# Altium integrated library Altera MAX 3000A.IntLib: 136 symbols (part 7 of 9)
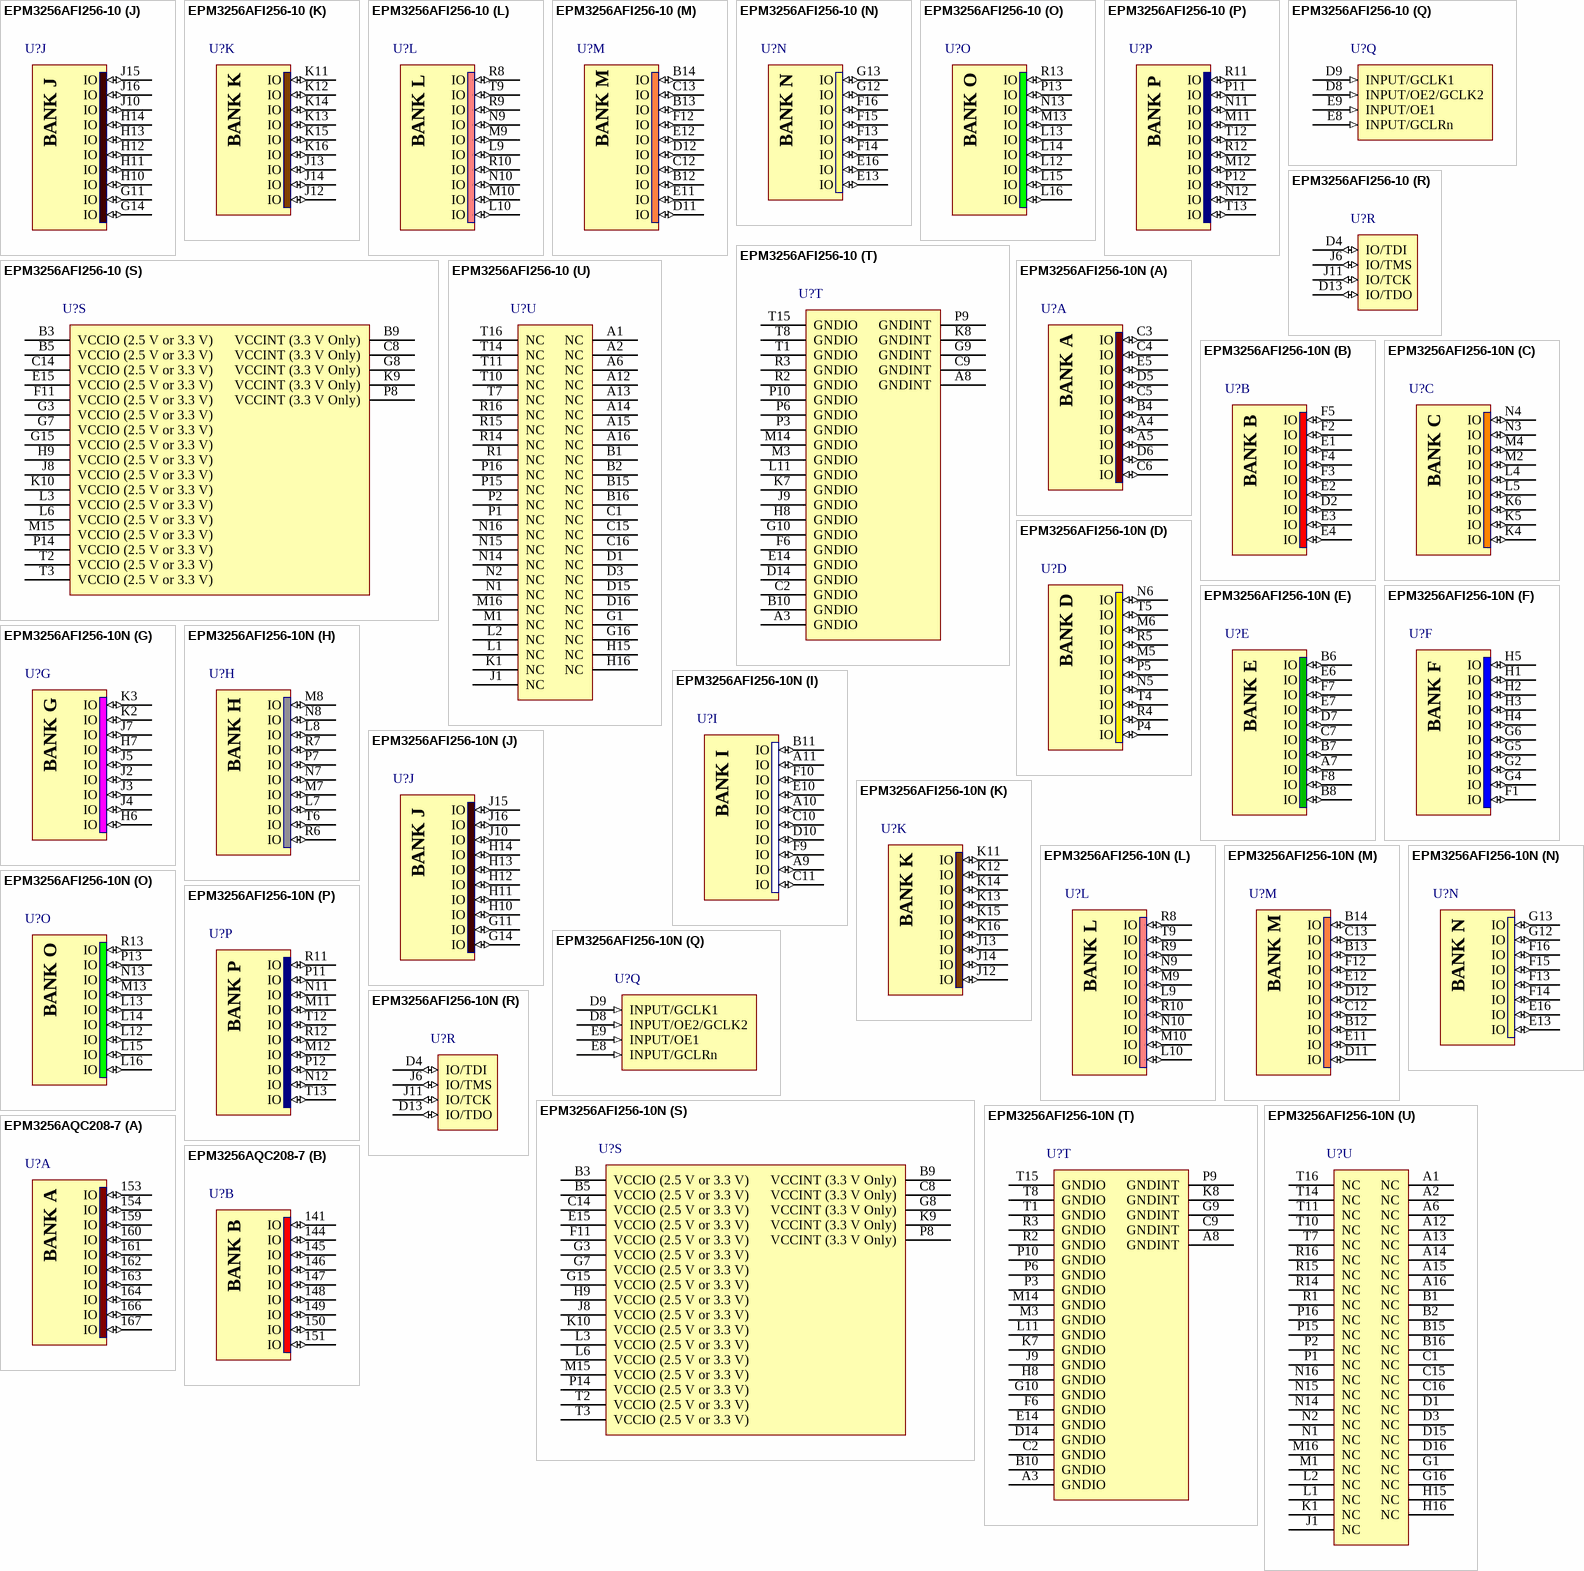
[diagram p53: symbols EPM3256AFI256-10 to EPM3256AQC208-7]

## EPM3256AFI256-10N
designator U?
MAX 3256A 3.3V CPLD, 161 IOs, 256-Pin FineLine BGA, Industrial Temperature, Speed Grade 10, Pb-Free; Published: 18-Aug-2005; LatestRevisionDate: 13-Apr-2006; LatestRevisionNote: IPC-7351 Footprint Added.; DatasheetVersion: ver3.5, Jun-2006; PackageVersion: ver14.3, Jul-2006; PackageReference: FBGA256; Publisher: Altium Limited; PackageDescription: 256-Ball FineLine Ball Grid Array (FBGA256) - Option 1; Code_JEDEC: MS-034-AAF-1; Code_IPC: BGA100P16X16-256; ComponentLink1Description: Manufacturer Link; ComponentLink1URL: http://www.altera.com/products/devices/max3k/m3k-index.html; ComponentLink2Description: Datasheet; ComponentLink2URL: http://www.altera.com/literature/ds/m3000a.pdf; ComponentLink3Description: Packaging Specification; ComponentLink3URL: http://www.altera.com/literature/ds/dspkg.pdf
footprint FBGA256 (BGA, 256-Leads, Body 17x17mm, Pitch 1mm)
3D model EPM3256A-FBGA256 (256-Ball FineLine Ball Grid Array (FBGA256) - Option 1)
signal-integrity model max3ka (MAX 3000A)
part A pins: A4 IO (io), A5 IO (io), B4 IO (io), C3 IO (io), C4 IO (io), C5 IO (io), C6 IO (io), D5 IO (io), D6 IO (io), E5 IO (io)
part B pins: D2 IO (io), E1 IO (io), E2 IO (io), E3 IO (io), E4 IO (io), F2 IO (io), F3 IO (io), F4 IO (io), F5 IO (io)
part C pins: K4 IO (io), K5 IO (io), K6 IO (io), L4 IO (io), L5 IO (io), M2 IO (io), M4 IO (io), N3 IO (io), N4 IO (io)
part D pins: M5 IO (io), M6 IO (io), N5 IO (io), N6 IO (io), P4 IO (io), P5 IO (io), R4 IO (io), R5 IO (io), T4 IO (io), T5 IO (io)
part E pins: A7 IO (io), B6 IO (io), B7 IO (io), B8 IO (io), C7 IO (io), D7 IO (io), E6 IO (io), E7 IO (io), F7 IO (io), F8 IO (io)
part F pins: F1 IO (io), G2 IO (io), G4 IO (io), G5 IO (io), G6 IO (io), H1 IO (io), H2 IO (io), H3 IO (io), H4 IO (io), H5 IO (io)
part G pins: H6 IO (io), H7 IO (io), J2 IO (io), J3 IO (io), J4 IO (io), J5 IO (io), J7 IO (io), K2 IO (io), K3 IO (io)
part H pins: L7 IO (io), L8 IO (io), M7 IO (io), M8 IO (io), N7 IO (io), N8 IO (io), P7 IO (io), R6 IO (io), R7 IO (io), T6 IO (io)
part I pins: A9 IO (io), A10 IO (io), A11 IO (io), B11 IO (io), C10 IO (io), C11 IO (io), D10 IO (io), E10 IO (io), F9 IO (io), F10 IO (io)
part J pins: G11 IO (io), G14 IO (io), H10 IO (io), H11 IO (io), H12 IO (io), H13 IO (io), H14 IO (io), J10 IO (io), J15 IO (io), J16 IO (io)
part K pins: J12 IO (io), J13 IO (io), J14 IO (io), K11 IO (io), K12 IO (io), K13 IO (io), K14 IO (io), K15 IO (io), K16 IO (io)
part L pins: L9 IO (io), L10 IO (io), M9 IO (io), M10 IO (io), N9 IO (io), N10 IO (io), R8 IO (io), R9 IO (io), R10 IO (io), T9 IO (io)
part M pins: B12 IO (io), B13 IO (io), B14 IO (io), C12 IO (io), C13 IO (io), D11 IO (io), D12 IO (io), E11 IO (io), E12 IO (io), F12 IO (io)
part N pins: E13 IO (io), E16 IO (io), F13 IO (io), F14 IO (io), F15 IO (io), F16 IO (io), G12 IO (io), G13 IO (io)
part O pins: L12 IO (io), L13 IO (io), L14 IO (io), L15 IO (io), L16 IO (io), M13 IO (io), N13 IO (io), P13 IO (io), R13 IO (io)
part P pins: M11 IO (io), M12 IO (io), N11 IO (io), N12 IO (io), P11 IO (io), P12 IO (io), R11 IO (io), R12 IO (io), T12 IO (io), T13 IO (io)
part Q pins: D8 INPUT/OE2/GCLK2 (in), D9 INPUT/GCLK1 (in), E8 INPUT/GCLRn (in), E9 INPUT/OE1 (in)
part R pins: D4 IO/TDI (io), D13 IO/TDO (io), J6 IO/TMS (io), J11 IO/TCK (io)
part S pins: B3 VCCIO (2.5 V or 3.3 V) (power), B5 VCCIO (2.5 V or 3.3 V) (power), B9 VCCINT (3.3 V Only) (power), C8 VCCINT (3.3 V Only) (power), C14 VCCIO (2.5 V or 3.3 V) (power), E15 VCCIO (2.5 V or 3.3 V) (power), F11 VCCIO (2.5 V or 3.3 V) (power), G3 VCCIO (2.5 V or 3.3 V) (power), G7 VCCIO (2.5 V or 3.3 V) (power), G8 VCCINT (3.3 V Only) (power), G15 VCCIO (2.5 V or 3.3 V) (power), H9 VCCIO (2.5 V or 3.3 V) (power), J8 VCCIO (2.5 V or 3.3 V) (power), K9 VCCINT (3.3 V Only) (power), K10 VCCIO (2.5 V or 3.3 V) (power), L3 VCCIO (2.5 V or 3.3 V) (power), L6 VCCIO (2.5 V or 3.3 V) (power), M15 VCCIO (2.5 V or 3.3 V) (power), P8 VCCINT (3.3 V Only) (power), P14 VCCIO (2.5 V or 3.3 V) (power), T2 VCCIO (2.5 V or 3.3 V) (power), T3 VCCIO (2.5 V or 3.3 V) (power)
part T pins: A3 GNDIO (power), A8 GNDINT (power), B10 GNDIO (power), C2 GNDIO (power), C9 GNDINT (power), D14 GNDIO (power), E14 GNDIO (power), F6 GNDIO (power), G9 GNDINT (power), G10 GNDIO (power), H8 GNDIO (power), J9 GNDIO (power), K7 GNDIO (power), K8 GNDINT (power), L11 GNDIO (power), M3 GNDIO (power), M14 GNDIO (power), P3 GNDIO (power), P6 GNDIO (power), P9 GNDINT (power), P10 GNDIO (power), R2 GNDIO (power), R3 GNDIO (power), T1 GNDIO (power), T8 GNDIO (power), T15 GNDIO (power)
part U pins: A1 NC, A2 NC, A6 NC, A12 NC, A13 NC, A14 NC, A15 NC, A16 NC, B1 NC, B2 NC, B15 NC, B16 NC, C1 NC, C15 NC, C16 NC, D1 NC, D3 NC, D15 NC, D16 NC, G1 NC, G16 NC, H15 NC, H16 NC, J1 NC, K1 NC, L1 NC, L2 NC, M1 NC, M16 NC, N1 NC, N2 NC, N14 NC, N15 NC, N16 NC, P1 NC, P2 NC, P15 NC, P16 NC, R1 NC, R14 NC, R15 NC, R16 NC, T7 NC, T10 NC, T11 NC, T14 NC, T16 NC
part A text: BANK A
part B text: BANK B
part C text: BANK C
part D text: BANK D
part E text: BANK E
part F text: BANK F
part G text: BANK G
part H text: BANK H
part I text: BANK I
part J text: BANK J
part K text: BANK K
part L text: BANK L
part M text: BANK M
part N text: BANK N
part O text: BANK O
part P text: BANK P

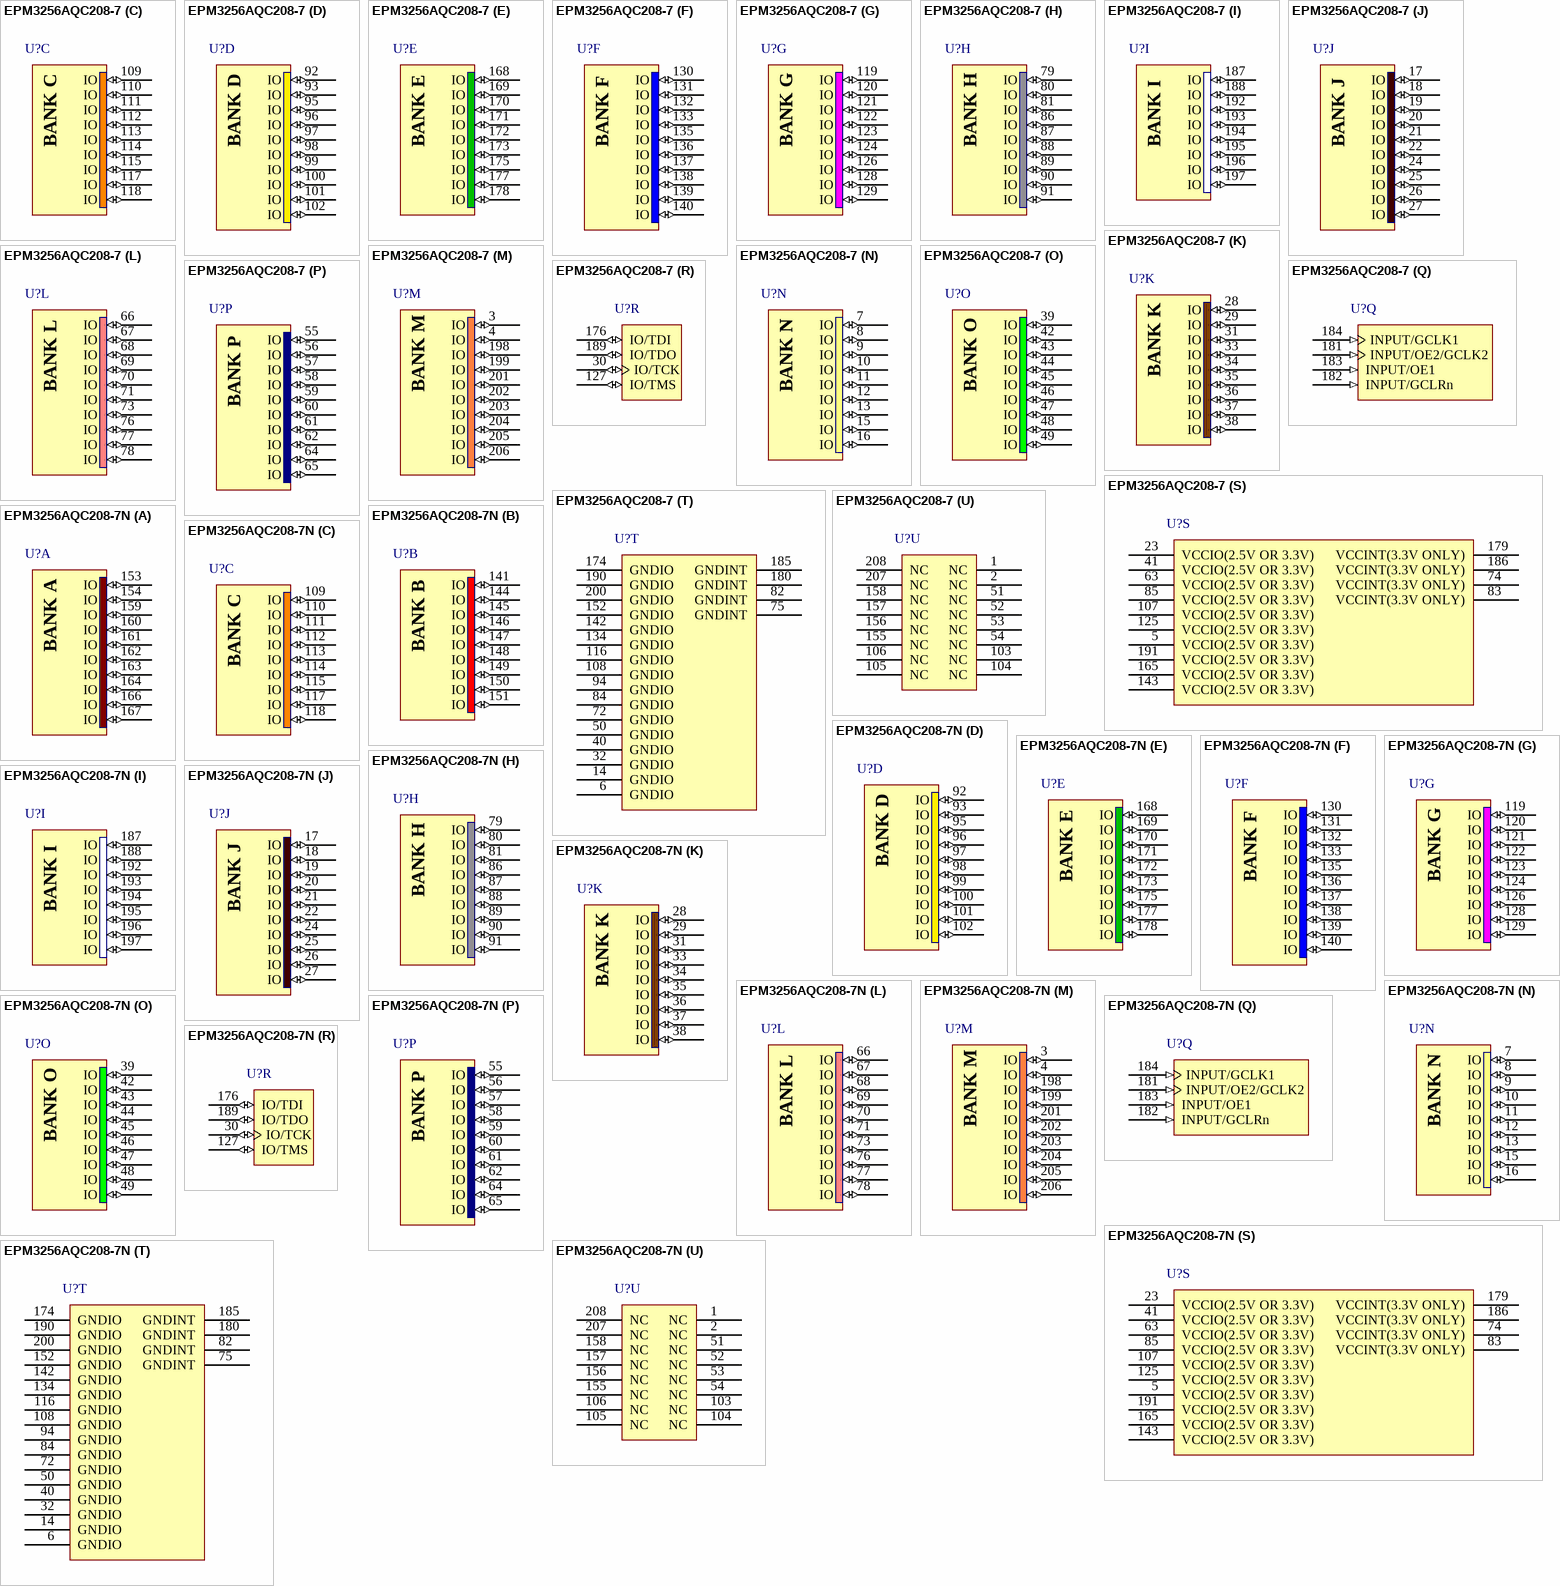
[diagram p30: symbols EPM3256AQC208-7 to EPM3256AQC208-7N]

## EPM3256AQC208-7
designator U?
MAX 3256A 3.3V CPLD, 158 IOs, 208-Pin PQFP, Commercial Temperature, Speed Grade 7; Published: 23-Sep-2002; LatestRevisionDate: 13-Apr-2006; LatestRevisionNote: IPC-7351 Footprint Added.; DatasheetVersion: ver3.5, Jun-2006; PackageVersion: ver14.3, Jul-2006; PackageReference: PQFP208; Publisher: Altium Limited; PackageDescription: 208-Pin Plastic Quad Flat Pack (PQFP208); Code_JEDEC: MS-029-FA-1; ComponentLink1Description: Manufacturer Link; ComponentLink1URL: http://www.altera.com/products/devices/max3k/m3k-index.html; ComponentLink2Description: Datasheet; ComponentLink2URL: http://www.altera.com/literature/ds/m3000a.pdf; ComponentLink3Description: Packaging Specification; ComponentLink3URL: http://www.altera.com/literature/ds/dspkg.pdf
footprint PQFP208_N (Shrink QFP, 208-Leads, Body 28x28mm, Pitch 0.5mm, IPC Medium Density)
footprint PQFP208_L (Shrink QFP, 208-Leads, Body 28x28mm, Pitch 0.5mm, IPC High Density)
footprint PQFP208_M (Shrink QFP, 208-Leads, Body 28x28mm, Pitch 0.5mm, IPC Low Density)
3D model EPM3256A-PQFP208 (208-Pin Plastic Quad Flat Pack (PQFP208))
signal-integrity model max3ka (MAX 3000A)
part A pins: 153 IO (io), 154 IO (io), 159 IO (io), 160 IO (io), 161 IO (io), 162 IO (io), 163 IO (io), 164 IO (io), 166 IO (io), 167 IO (io)
part B pins: 141 IO (io), 144 IO (io), 145 IO (io), 146 IO (io), 147 IO (io), 148 IO (io), 149 IO (io), 150 IO (io), 151 IO (io)
part C pins: 109 IO (io), 110 IO (io), 111 IO (io), 112 IO (io), 113 IO (io), 114 IO (io), 115 IO (io), 117 IO (io), 118 IO (io)
part D pins: 92 IO (io), 93 IO (io), 95 IO (io), 96 IO (io), 97 IO (io), 98 IO (io), 99 IO (io), 100 IO (io), 101 IO (io), 102 IO (io)
part E pins: 168 IO (io), 169 IO (io), 170 IO (io), 171 IO (io), 172 IO (io), 173 IO (io), 175 IO (io), 177 IO (io), 178 IO (io)
part F pins: 130 IO (io), 131 IO (io), 132 IO (io), 133 IO (io), 135 IO (io), 136 IO (io), 137 IO (io), 138 IO (io), 139 IO (io), 140 IO (io)
part G pins: 119 IO (io), 120 IO (io), 121 IO (io), 122 IO (io), 123 IO (io), 124 IO (io), 126 IO (io), 128 IO (io), 129 IO (io)
part H pins: 79 IO (io), 80 IO (io), 81 IO (io), 86 IO (io), 87 IO (io), 88 IO (io), 89 IO (io), 90 IO (io), 91 IO (io)
part I pins: 187 IO (io), 188 IO (io), 192 IO (io), 193 IO (io), 194 IO (io), 195 IO (io), 196 IO (io), 197 IO (io)
part J pins: 17 IO (io), 18 IO (io), 19 IO (io), 20 IO (io), 21 IO (io), 22 IO (io), 24 IO (io), 25 IO (io), 26 IO (io), 27 IO (io)
part K pins: 28 IO (io), 29 IO (io), 31 IO (io), 33 IO (io), 34 IO (io), 35 IO (io), 36 IO (io), 37 IO (io), 38 IO (io)
part L pins: 66 IO (io), 67 IO (io), 68 IO (io), 69 IO (io), 70 IO (io), 71 IO (io), 73 IO (io), 76 IO (io), 77 IO (io), 78 IO (io)
part M pins: 3 IO (io), 4 IO (io), 198 IO (io), 199 IO (io), 201 IO (io), 202 IO (io), 203 IO (io), 204 IO (io), 205 IO (io), 206 IO (io)
part N pins: 7 IO (io), 8 IO (io), 9 IO (io), 10 IO (io), 11 IO (io), 12 IO (io), 13 IO (io), 15 IO (io), 16 IO (io)
part O pins: 39 IO (io), 42 IO (io), 43 IO (io), 44 IO (io), 45 IO (io), 46 IO (io), 47 IO (io), 48 IO (io), 49 IO (io)
part P pins: 55 IO (io), 56 IO (io), 57 IO (io), 58 IO (io), 59 IO (io), 60 IO (io), 61 IO (io), 62 IO (io), 64 IO (io), 65 IO (io)
part Q pins: 181 INPUT/OE2/GCLK2 (in), 182 INPUT/GCLRn (in), 183 INPUT/OE1 (in), 184 INPUT/GCLK1 (in)
part R pins: 30 IO/TCK (io), 127 IO/TMS (io), 176 IO/TDI (io), 189 IO/TDO (io)
part S pins: 5 VCCIO(2.5V OR 3.3V) (power), 23 VCCIO(2.5V OR 3.3V) (power), 41 VCCIO(2.5V OR 3.3V) (power), 63 VCCIO(2.5V OR 3.3V) (power), 74 VCCINT(3.3V ONLY) (power), 83 VCCINT(3.3V ONLY) (power), 85 VCCIO(2.5V OR 3.3V) (power), 107 VCCIO(2.5V OR 3.3V) (power), 125 VCCIO(2.5V OR 3.3V) (power), 143 VCCIO(2.5V OR 3.3V) (power), 165 VCCIO(2.5V OR 3.3V) (power), 179 VCCINT(3.3V ONLY) (power), 186 VCCINT(3.3V ONLY) (power), 191 VCCIO(2.5V OR 3.3V) (power)
part T pins: 6 GNDIO (power), 14 GNDIO (power), 32 GNDIO (power), 40 GNDIO (power), 50 GNDIO (power), 72 GNDIO (power), 75 GNDINT (power), 82 GNDINT (power), 84 GNDIO (power), 94 GNDIO (power), 108 GNDIO (power), 116 GNDIO (power), 134 GNDIO (power), 142 GNDIO (power), 152 GNDIO (power), 174 GNDIO (power), 180 GNDINT (power), 185 GNDINT (power), 190 GNDIO (power), 200 GNDIO (power)
part U pins: 1 NC, 2 NC, 51 NC, 52 NC, 53 NC, 54 NC, 103 NC, 104 NC, 105 NC, 106 NC, 155 NC, 156 NC, 157 NC, 158 NC, 207 NC, 208 NC
part A text: BANK A
part B text: BANK B
part C text: BANK C
part D text: BANK D
part E text: BANK E
part F text: BANK F
part G text: BANK G
part H text: BANK H
part I text: BANK I
part J text: BANK J
part K text: BANK K
part L text: BANK L
part M text: BANK M
part N text: BANK N
part O text: BANK O
part P text: BANK P

## EPM3256AQC208-7N
designator U?
MAX 3256A 3.3V CPLD, 158 IOs, 208-Pin PQFP, Commercial Temperature, Speed Grade 7, Pb-Free; Published: 4-Mar-2005; LatestRevisionDate: 13-Apr-2006; LatestRevisionNote: IPC-7351 Footprint Added.; DatasheetVersion: ver3.5, Jun-2006; PackageVersion: ver14.3, Jul-2006; PackageReference: PQFP208; Publisher: Altium Limited; PackageDescription: 208-Pin Plastic Quad Flat Pack (PQFP208); Code_JEDEC: MS-029-FA-1; ComponentLink1Description: Manufacturer Link; ComponentLink1URL: http://www.altera.com/products/devices/max3k/m3k-index.html; ComponentLink2Description: Datasheet; ComponentLink2URL: http://www.altera.com/literature/ds/m3000a.pdf; ComponentLink3Description: Packaging Specification; ComponentLink3URL: http://www.altera.com/literature/ds/dspkg.pdf
footprint PQFP208_N (Shrink QFP, 208-Leads, Body 28x28mm, Pitch 0.5mm, IPC Medium Density)
footprint PQFP208_L (Shrink QFP, 208-Leads, Body 28x28mm, Pitch 0.5mm, IPC High Density)
footprint PQFP208_M (Shrink QFP, 208-Leads, Body 28x28mm, Pitch 0.5mm, IPC Low Density)
3D model EPM3256A-PQFP208 (208-Pin Plastic Quad Flat Pack (PQFP208))
signal-integrity model max3ka (MAX 3000A)
part A pins: 153 IO (io), 154 IO (io), 159 IO (io), 160 IO (io), 161 IO (io), 162 IO (io), 163 IO (io), 164 IO (io), 166 IO (io), 167 IO (io)
part B pins: 141 IO (io), 144 IO (io), 145 IO (io), 146 IO (io), 147 IO (io), 148 IO (io), 149 IO (io), 150 IO (io), 151 IO (io)
part C pins: 109 IO (io), 110 IO (io), 111 IO (io), 112 IO (io), 113 IO (io), 114 IO (io), 115 IO (io), 117 IO (io), 118 IO (io)
part D pins: 92 IO (io), 93 IO (io), 95 IO (io), 96 IO (io), 97 IO (io), 98 IO (io), 99 IO (io), 100 IO (io), 101 IO (io), 102 IO (io)
part E pins: 168 IO (io), 169 IO (io), 170 IO (io), 171 IO (io), 172 IO (io), 173 IO (io), 175 IO (io), 177 IO (io), 178 IO (io)
part F pins: 130 IO (io), 131 IO (io), 132 IO (io), 133 IO (io), 135 IO (io), 136 IO (io), 137 IO (io), 138 IO (io), 139 IO (io), 140 IO (io)
part G pins: 119 IO (io), 120 IO (io), 121 IO (io), 122 IO (io), 123 IO (io), 124 IO (io), 126 IO (io), 128 IO (io), 129 IO (io)
part H pins: 79 IO (io), 80 IO (io), 81 IO (io), 86 IO (io), 87 IO (io), 88 IO (io), 89 IO (io), 90 IO (io), 91 IO (io)
part I pins: 187 IO (io), 188 IO (io), 192 IO (io), 193 IO (io), 194 IO (io), 195 IO (io), 196 IO (io), 197 IO (io)
part J pins: 17 IO (io), 18 IO (io), 19 IO (io), 20 IO (io), 21 IO (io), 22 IO (io), 24 IO (io), 25 IO (io), 26 IO (io), 27 IO (io)
part K pins: 28 IO (io), 29 IO (io), 31 IO (io), 33 IO (io), 34 IO (io), 35 IO (io), 36 IO (io), 37 IO (io), 38 IO (io)
part L pins: 66 IO (io), 67 IO (io), 68 IO (io), 69 IO (io), 70 IO (io), 71 IO (io), 73 IO (io), 76 IO (io), 77 IO (io), 78 IO (io)
part M pins: 3 IO (io), 4 IO (io), 198 IO (io), 199 IO (io), 201 IO (io), 202 IO (io), 203 IO (io), 204 IO (io), 205 IO (io), 206 IO (io)
part N pins: 7 IO (io), 8 IO (io), 9 IO (io), 10 IO (io), 11 IO (io), 12 IO (io), 13 IO (io), 15 IO (io), 16 IO (io)
part O pins: 39 IO (io), 42 IO (io), 43 IO (io), 44 IO (io), 45 IO (io), 46 IO (io), 47 IO (io), 48 IO (io), 49 IO (io)
part P pins: 55 IO (io), 56 IO (io), 57 IO (io), 58 IO (io), 59 IO (io), 60 IO (io), 61 IO (io), 62 IO (io), 64 IO (io), 65 IO (io)
part Q pins: 181 INPUT/OE2/GCLK2 (in), 182 INPUT/GCLRn (in), 183 INPUT/OE1 (in), 184 INPUT/GCLK1 (in)
part R pins: 30 IO/TCK (io), 127 IO/TMS (io), 176 IO/TDI (io), 189 IO/TDO (io)
part S pins: 5 VCCIO(2.5V OR 3.3V) (power), 23 VCCIO(2.5V OR 3.3V) (power), 41 VCCIO(2.5V OR 3.3V) (power), 63 VCCIO(2.5V OR 3.3V) (power), 74 VCCINT(3.3V ONLY) (power), 83 VCCINT(3.3V ONLY) (power), 85 VCCIO(2.5V OR 3.3V) (power), 107 VCCIO(2.5V OR 3.3V) (power), 125 VCCIO(2.5V OR 3.3V) (power), 143 VCCIO(2.5V OR 3.3V) (power), 165 VCCIO(2.5V OR 3.3V) (power), 179 VCCINT(3.3V ONLY) (power), 186 VCCINT(3.3V ONLY) (power), 191 VCCIO(2.5V OR 3.3V) (power)
part T pins: 6 GNDIO (power), 14 GNDIO (power), 32 GNDIO (power), 40 GNDIO (power), 50 GNDIO (power), 72 GNDIO (power), 75 GNDINT (power), 82 GNDINT (power), 84 GNDIO (power), 94 GNDIO (power), 108 GNDIO (power), 116 GNDIO (power), 134 GNDIO (power), 142 GNDIO (power), 152 GNDIO (power), 174 GNDIO (power), 180 GNDINT (power), 185 GNDINT (power), 190 GNDIO (power), 200 GNDIO (power)
part U pins: 1 NC, 2 NC, 51 NC, 52 NC, 53 NC, 54 NC, 103 NC, 104 NC, 105 NC, 106 NC, 155 NC, 156 NC, 157 NC, 158 NC, 207 NC, 208 NC
part A text: BANK A
part B text: BANK B
part C text: BANK C
part D text: BANK D
part E text: BANK E
part F text: BANK F
part G text: BANK G
part H text: BANK H
part I text: BANK I
part J text: BANK J
part K text: BANK K
part L text: BANK L
part M text: BANK M
part N text: BANK N
part O text: BANK O
part P text: BANK P

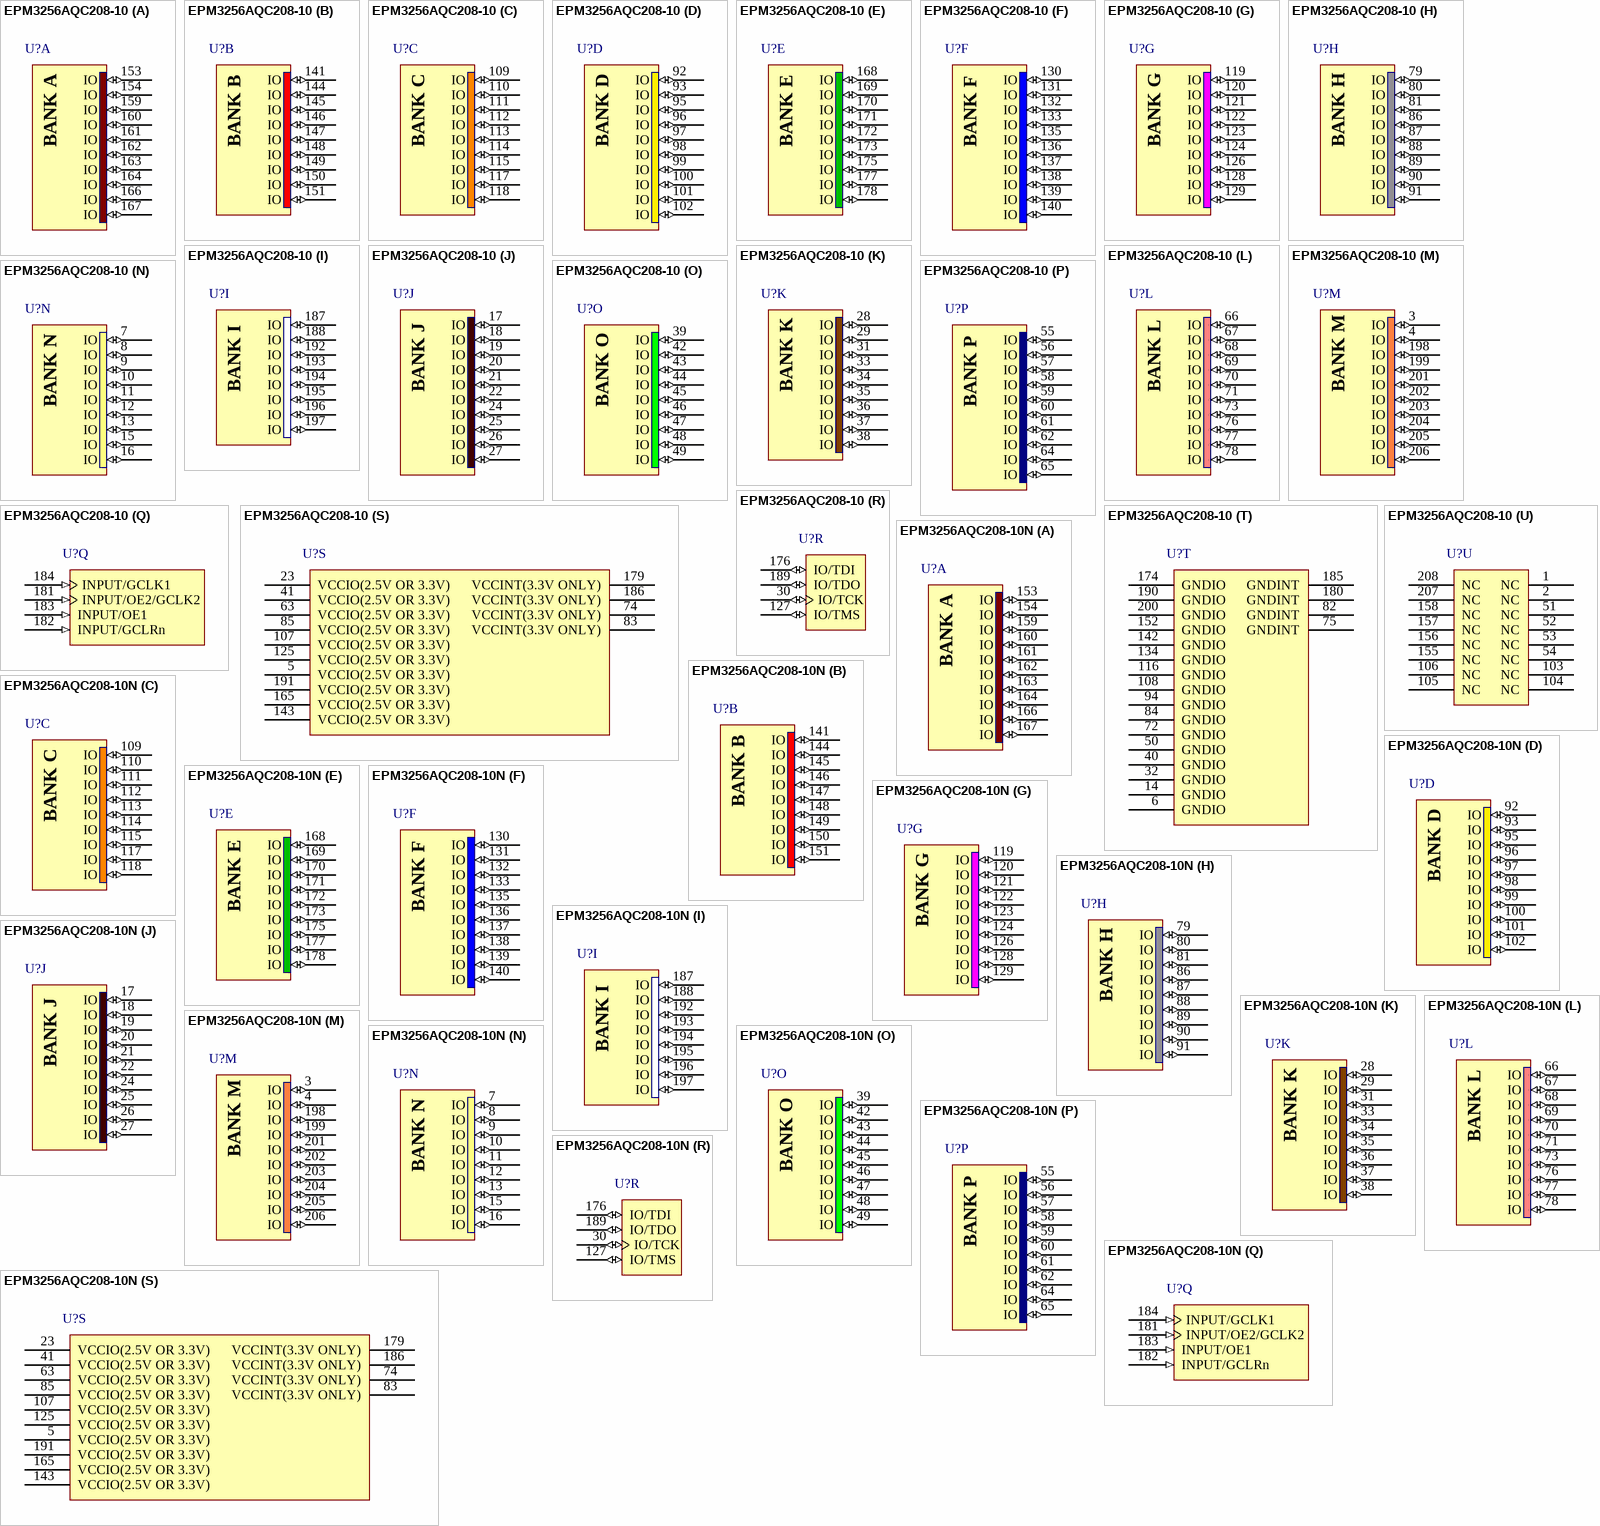
[diagram p31: symbols EPM3256AQC208-10 to EPM3256AQC208-10N]

## EPM3256AQC208-10
designator U?
MAX 3256A 3.3V CPLD, 158 IOs, 208-Pin PQFP, Commercial Temperature, Speed Grade 10; Published: 23-Sep-2002; LatestRevisionDate: 13-Apr-2006; LatestRevisionNote: IPC-7351 Footprint Added.; DatasheetVersion: ver3.5, Jun-2006; PackageVersion: ver14.3, Jul-2006; PackageReference: PQFP208; Publisher: Altium Limited; PackageDescription: 208-Pin Plastic Quad Flat Pack (PQFP208); Code_JEDEC: MS-029-FA-1; ComponentLink1Description: Manufacturer Link; ComponentLink1URL: http://www.altera.com/products/devices/max3k/m3k-index.html; ComponentLink2Description: Datasheet; ComponentLink2URL: http://www.altera.com/literature/ds/m3000a.pdf; ComponentLink3Description: Packaging Specification; ComponentLink3URL: http://www.altera.com/literature/ds/dspkg.pdf
footprint PQFP208_N (Shrink QFP, 208-Leads, Body 28x28mm, Pitch 0.5mm, IPC Medium Density)
footprint PQFP208_L (Shrink QFP, 208-Leads, Body 28x28mm, Pitch 0.5mm, IPC High Density)
footprint PQFP208_M (Shrink QFP, 208-Leads, Body 28x28mm, Pitch 0.5mm, IPC Low Density)
3D model EPM3256A-PQFP208 (208-Pin Plastic Quad Flat Pack (PQFP208))
signal-integrity model max3ka (MAX 3000A)
part A pins: 153 IO (io), 154 IO (io), 159 IO (io), 160 IO (io), 161 IO (io), 162 IO (io), 163 IO (io), 164 IO (io), 166 IO (io), 167 IO (io)
part B pins: 141 IO (io), 144 IO (io), 145 IO (io), 146 IO (io), 147 IO (io), 148 IO (io), 149 IO (io), 150 IO (io), 151 IO (io)
part C pins: 109 IO (io), 110 IO (io), 111 IO (io), 112 IO (io), 113 IO (io), 114 IO (io), 115 IO (io), 117 IO (io), 118 IO (io)
part D pins: 92 IO (io), 93 IO (io), 95 IO (io), 96 IO (io), 97 IO (io), 98 IO (io), 99 IO (io), 100 IO (io), 101 IO (io), 102 IO (io)
part E pins: 168 IO (io), 169 IO (io), 170 IO (io), 171 IO (io), 172 IO (io), 173 IO (io), 175 IO (io), 177 IO (io), 178 IO (io)
part F pins: 130 IO (io), 131 IO (io), 132 IO (io), 133 IO (io), 135 IO (io), 136 IO (io), 137 IO (io), 138 IO (io), 139 IO (io), 140 IO (io)
part G pins: 119 IO (io), 120 IO (io), 121 IO (io), 122 IO (io), 123 IO (io), 124 IO (io), 126 IO (io), 128 IO (io), 129 IO (io)
part H pins: 79 IO (io), 80 IO (io), 81 IO (io), 86 IO (io), 87 IO (io), 88 IO (io), 89 IO (io), 90 IO (io), 91 IO (io)
part I pins: 187 IO (io), 188 IO (io), 192 IO (io), 193 IO (io), 194 IO (io), 195 IO (io), 196 IO (io), 197 IO (io)
part J pins: 17 IO (io), 18 IO (io), 19 IO (io), 20 IO (io), 21 IO (io), 22 IO (io), 24 IO (io), 25 IO (io), 26 IO (io), 27 IO (io)
part K pins: 28 IO (io), 29 IO (io), 31 IO (io), 33 IO (io), 34 IO (io), 35 IO (io), 36 IO (io), 37 IO (io), 38 IO (io)
part L pins: 66 IO (io), 67 IO (io), 68 IO (io), 69 IO (io), 70 IO (io), 71 IO (io), 73 IO (io), 76 IO (io), 77 IO (io), 78 IO (io)
part M pins: 3 IO (io), 4 IO (io), 198 IO (io), 199 IO (io), 201 IO (io), 202 IO (io), 203 IO (io), 204 IO (io), 205 IO (io), 206 IO (io)
part N pins: 7 IO (io), 8 IO (io), 9 IO (io), 10 IO (io), 11 IO (io), 12 IO (io), 13 IO (io), 15 IO (io), 16 IO (io)
part O pins: 39 IO (io), 42 IO (io), 43 IO (io), 44 IO (io), 45 IO (io), 46 IO (io), 47 IO (io), 48 IO (io), 49 IO (io)
part P pins: 55 IO (io), 56 IO (io), 57 IO (io), 58 IO (io), 59 IO (io), 60 IO (io), 61 IO (io), 62 IO (io), 64 IO (io), 65 IO (io)
part Q pins: 181 INPUT/OE2/GCLK2 (in), 182 INPUT/GCLRn (in), 183 INPUT/OE1 (in), 184 INPUT/GCLK1 (in)
part R pins: 30 IO/TCK (io), 127 IO/TMS (io), 176 IO/TDI (io), 189 IO/TDO (io)
part S pins: 5 VCCIO(2.5V OR 3.3V) (power), 23 VCCIO(2.5V OR 3.3V) (power), 41 VCCIO(2.5V OR 3.3V) (power), 63 VCCIO(2.5V OR 3.3V) (power), 74 VCCINT(3.3V ONLY) (power), 83 VCCINT(3.3V ONLY) (power), 85 VCCIO(2.5V OR 3.3V) (power), 107 VCCIO(2.5V OR 3.3V) (power), 125 VCCIO(2.5V OR 3.3V) (power), 143 VCCIO(2.5V OR 3.3V) (power), 165 VCCIO(2.5V OR 3.3V) (power), 179 VCCINT(3.3V ONLY) (power), 186 VCCINT(3.3V ONLY) (power), 191 VCCIO(2.5V OR 3.3V) (power)
part T pins: 6 GNDIO (power), 14 GNDIO (power), 32 GNDIO (power), 40 GNDIO (power), 50 GNDIO (power), 72 GNDIO (power), 75 GNDINT (power), 82 GNDINT (power), 84 GNDIO (power), 94 GNDIO (power), 108 GNDIO (power), 116 GNDIO (power), 134 GNDIO (power), 142 GNDIO (power), 152 GNDIO (power), 174 GNDIO (power), 180 GNDINT (power), 185 GNDINT (power), 190 GNDIO (power), 200 GNDIO (power)
part U pins: 1 NC, 2 NC, 51 NC, 52 NC, 53 NC, 54 NC, 103 NC, 104 NC, 105 NC, 106 NC, 155 NC, 156 NC, 157 NC, 158 NC, 207 NC, 208 NC
part A text: BANK A
part B text: BANK B
part C text: BANK C
part D text: BANK D
part E text: BANK E
part F text: BANK F
part G text: BANK G
part H text: BANK H
part I text: BANK I
part J text: BANK J
part K text: BANK K
part L text: BANK L
part M text: BANK M
part N text: BANK N
part O text: BANK O
part P text: BANK P

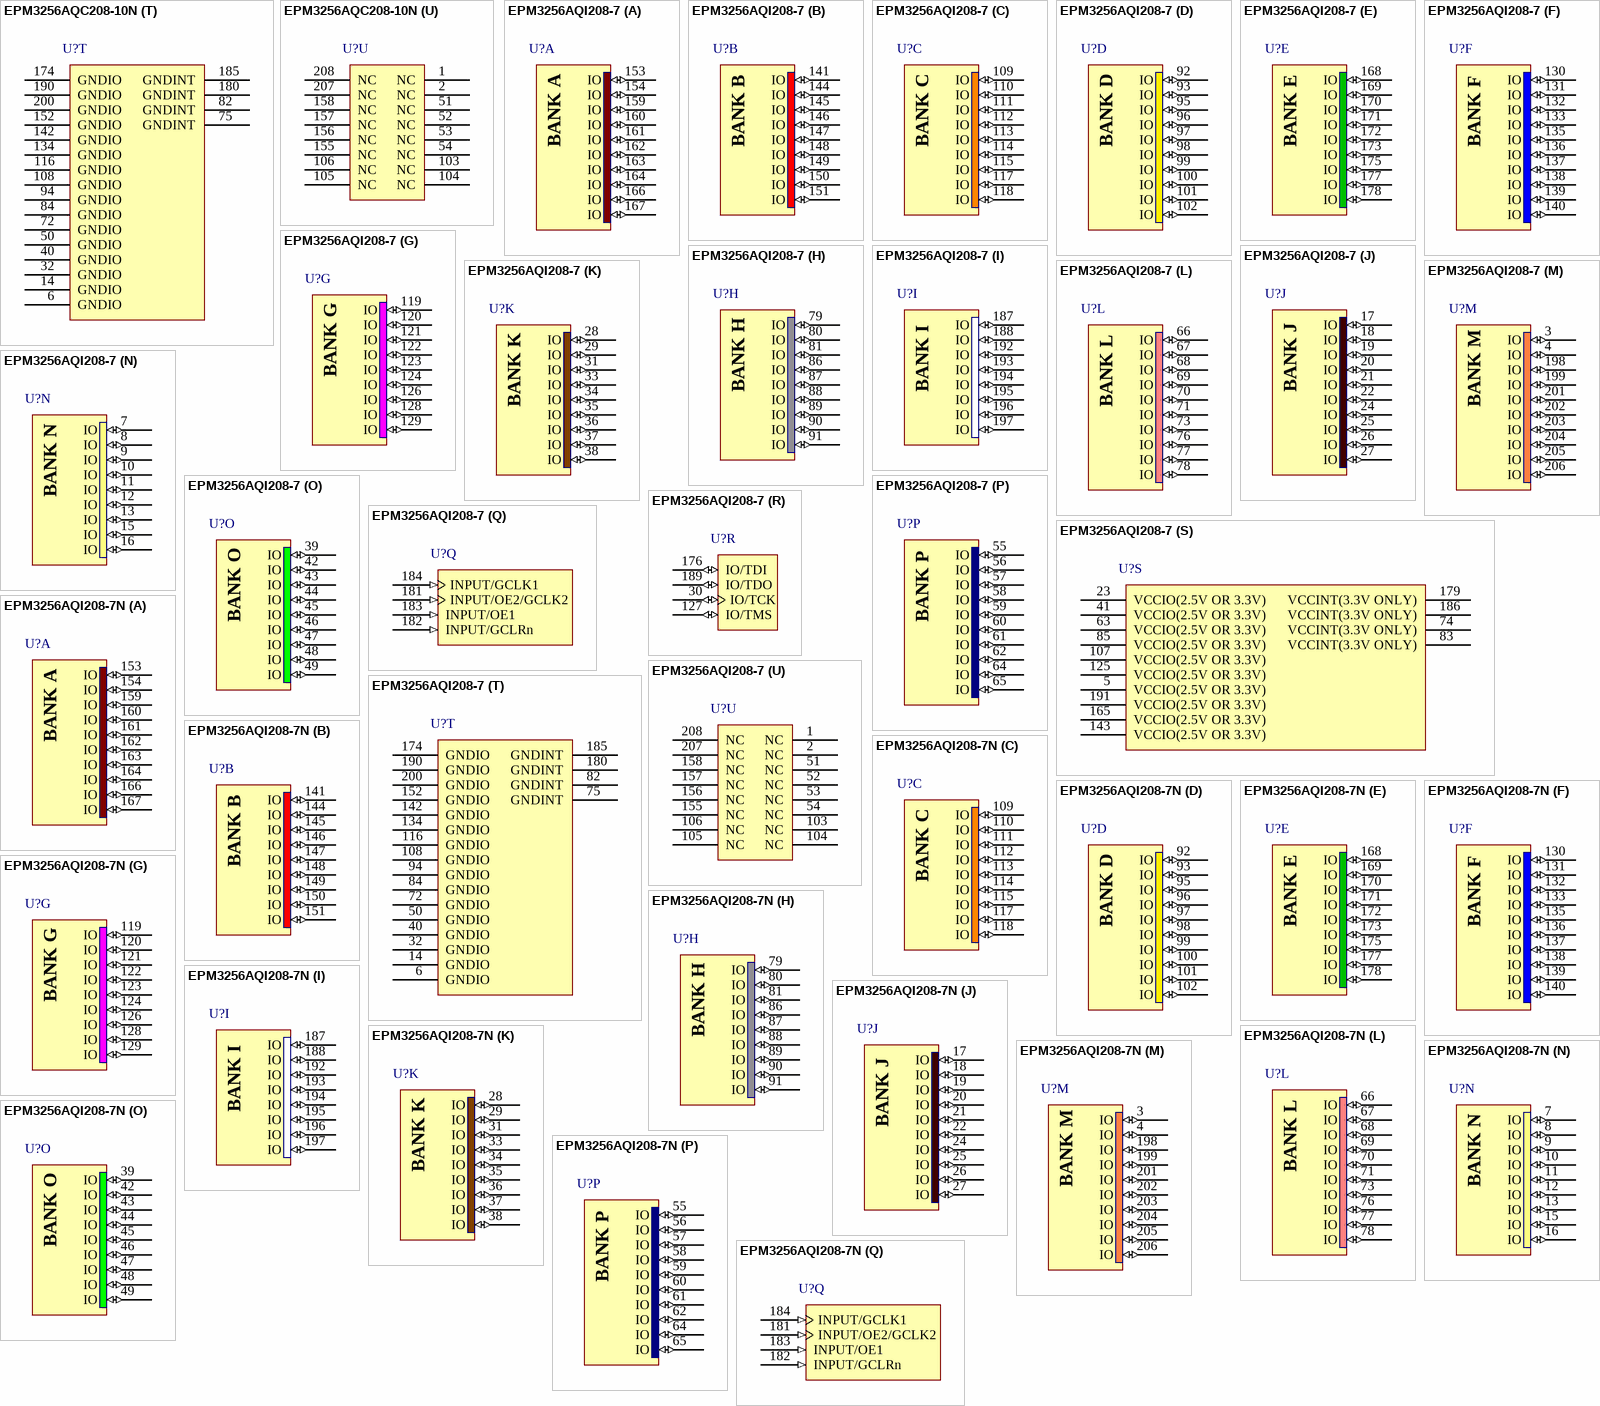
[diagram p32: symbols EPM3256AQC208-10N to EPM3256AQI208-7N]

## EPM3256AQC208-10N
designator U?
MAX 3256A 3.3V CPLD, 158 IOs, 208-Pin PQFP, Commercial Temperature, Speed Grade 10, Pb-Free; Published: 4-Mar-2005; LatestRevisionDate: 13-Apr-2006; LatestRevisionNote: IPC-7351 Footprint Added.; DatasheetVersion: ver3.5, Jun-2006; PackageVersion: ver14.3, Jul-2006; PackageReference: PQFP208; Publisher: Altium Limited; PackageDescription: 208-Pin Plastic Quad Flat Pack (PQFP208); Code_JEDEC: MS-029-FA-1; ComponentLink1Description: Manufacturer Link; ComponentLink1URL: http://www.altera.com/products/devices/max3k/m3k-index.html; ComponentLink2Description: Datasheet; ComponentLink2URL: http://www.altera.com/literature/ds/m3000a.pdf; ComponentLink3Description: Packaging Specification; ComponentLink3URL: http://www.altera.com/literature/ds/dspkg.pdf
footprint PQFP208_N (Shrink QFP, 208-Leads, Body 28x28mm, Pitch 0.5mm, IPC Medium Density)
footprint PQFP208_L (Shrink QFP, 208-Leads, Body 28x28mm, Pitch 0.5mm, IPC High Density)
footprint PQFP208_M (Shrink QFP, 208-Leads, Body 28x28mm, Pitch 0.5mm, IPC Low Density)
3D model EPM3256A-PQFP208 (208-Pin Plastic Quad Flat Pack (PQFP208))
signal-integrity model max3ka (MAX 3000A)
part A pins: 153 IO (io), 154 IO (io), 159 IO (io), 160 IO (io), 161 IO (io), 162 IO (io), 163 IO (io), 164 IO (io), 166 IO (io), 167 IO (io)
part B pins: 141 IO (io), 144 IO (io), 145 IO (io), 146 IO (io), 147 IO (io), 148 IO (io), 149 IO (io), 150 IO (io), 151 IO (io)
part C pins: 109 IO (io), 110 IO (io), 111 IO (io), 112 IO (io), 113 IO (io), 114 IO (io), 115 IO (io), 117 IO (io), 118 IO (io)
part D pins: 92 IO (io), 93 IO (io), 95 IO (io), 96 IO (io), 97 IO (io), 98 IO (io), 99 IO (io), 100 IO (io), 101 IO (io), 102 IO (io)
part E pins: 168 IO (io), 169 IO (io), 170 IO (io), 171 IO (io), 172 IO (io), 173 IO (io), 175 IO (io), 177 IO (io), 178 IO (io)
part F pins: 130 IO (io), 131 IO (io), 132 IO (io), 133 IO (io), 135 IO (io), 136 IO (io), 137 IO (io), 138 IO (io), 139 IO (io), 140 IO (io)
part G pins: 119 IO (io), 120 IO (io), 121 IO (io), 122 IO (io), 123 IO (io), 124 IO (io), 126 IO (io), 128 IO (io), 129 IO (io)
part H pins: 79 IO (io), 80 IO (io), 81 IO (io), 86 IO (io), 87 IO (io), 88 IO (io), 89 IO (io), 90 IO (io), 91 IO (io)
part I pins: 187 IO (io), 188 IO (io), 192 IO (io), 193 IO (io), 194 IO (io), 195 IO (io), 196 IO (io), 197 IO (io)
part J pins: 17 IO (io), 18 IO (io), 19 IO (io), 20 IO (io), 21 IO (io), 22 IO (io), 24 IO (io), 25 IO (io), 26 IO (io), 27 IO (io)
part K pins: 28 IO (io), 29 IO (io), 31 IO (io), 33 IO (io), 34 IO (io), 35 IO (io), 36 IO (io), 37 IO (io), 38 IO (io)
part L pins: 66 IO (io), 67 IO (io), 68 IO (io), 69 IO (io), 70 IO (io), 71 IO (io), 73 IO (io), 76 IO (io), 77 IO (io), 78 IO (io)
part M pins: 3 IO (io), 4 IO (io), 198 IO (io), 199 IO (io), 201 IO (io), 202 IO (io), 203 IO (io), 204 IO (io), 205 IO (io), 206 IO (io)
part N pins: 7 IO (io), 8 IO (io), 9 IO (io), 10 IO (io), 11 IO (io), 12 IO (io), 13 IO (io), 15 IO (io), 16 IO (io)
part O pins: 39 IO (io), 42 IO (io), 43 IO (io), 44 IO (io), 45 IO (io), 46 IO (io), 47 IO (io), 48 IO (io), 49 IO (io)
part P pins: 55 IO (io), 56 IO (io), 57 IO (io), 58 IO (io), 59 IO (io), 60 IO (io), 61 IO (io), 62 IO (io), 64 IO (io), 65 IO (io)
part Q pins: 181 INPUT/OE2/GCLK2 (in), 182 INPUT/GCLRn (in), 183 INPUT/OE1 (in), 184 INPUT/GCLK1 (in)
part R pins: 30 IO/TCK (io), 127 IO/TMS (io), 176 IO/TDI (io), 189 IO/TDO (io)
part S pins: 5 VCCIO(2.5V OR 3.3V) (power), 23 VCCIO(2.5V OR 3.3V) (power), 41 VCCIO(2.5V OR 3.3V) (power), 63 VCCIO(2.5V OR 3.3V) (power), 74 VCCINT(3.3V ONLY) (power), 83 VCCINT(3.3V ONLY) (power), 85 VCCIO(2.5V OR 3.3V) (power), 107 VCCIO(2.5V OR 3.3V) (power), 125 VCCIO(2.5V OR 3.3V) (power), 143 VCCIO(2.5V OR 3.3V) (power), 165 VCCIO(2.5V OR 3.3V) (power), 179 VCCINT(3.3V ONLY) (power), 186 VCCINT(3.3V ONLY) (power), 191 VCCIO(2.5V OR 3.3V) (power)
part T pins: 6 GNDIO (power), 14 GNDIO (power), 32 GNDIO (power), 40 GNDIO (power), 50 GNDIO (power), 72 GNDIO (power), 75 GNDINT (power), 82 GNDINT (power), 84 GNDIO (power), 94 GNDIO (power), 108 GNDIO (power), 116 GNDIO (power), 134 GNDIO (power), 142 GNDIO (power), 152 GNDIO (power), 174 GNDIO (power), 180 GNDINT (power), 185 GNDINT (power), 190 GNDIO (power), 200 GNDIO (power)
part U pins: 1 NC, 2 NC, 51 NC, 52 NC, 53 NC, 54 NC, 103 NC, 104 NC, 105 NC, 106 NC, 155 NC, 156 NC, 157 NC, 158 NC, 207 NC, 208 NC
part A text: BANK A
part B text: BANK B
part C text: BANK C
part D text: BANK D
part E text: BANK E
part F text: BANK F
part G text: BANK G
part H text: BANK H
part I text: BANK I
part J text: BANK J
part K text: BANK K
part L text: BANK L
part M text: BANK M
part N text: BANK N
part O text: BANK O
part P text: BANK P

## EPM3256AQI208-7
designator U?
MAX 3256A 3.3V CPLD, 158 IOs, 208-Pin PQFP, Industrial Temperature, Speed Grade 7; Published: 17-Sep-2003; LatestRevisionDate: 13-Apr-2006; LatestRevisionNote: IPC-7351 Footprint Added.; DatasheetVersion: ver3.5, Jun-2006; PackageVersion: ver14.3, Jul-2006; PackageReference: PQFP208; Publisher: Altium Limited; PackageDescription: 208-Pin Plastic Quad Flat Pack (PQFP208); Code_JEDEC: MS-029-FA-1; ComponentLink1Description: Manufacturer Link; ComponentLink1URL: http://www.altera.com/products/devices/max3k/m3k-index.html; ComponentLink2Description: Datasheet; ComponentLink2URL: http://www.altera.com/literature/ds/m3000a.pdf; ComponentLink3Description: Packaging Specification; ComponentLink3URL: http://www.altera.com/literature/ds/dspkg.pdf
footprint PQFP208_N (Shrink QFP, 208-Leads, Body 28x28mm, Pitch 0.5mm, IPC Medium Density)
footprint PQFP208_L (Shrink QFP, 208-Leads, Body 28x28mm, Pitch 0.5mm, IPC High Density)
footprint PQFP208_M (Shrink QFP, 208-Leads, Body 28x28mm, Pitch 0.5mm, IPC Low Density)
3D model EPM3256A-PQFP208 (208-Pin Plastic Quad Flat Pack (PQFP208))
signal-integrity model max3ka (MAX 3000A)
part A pins: 153 IO (io), 154 IO (io), 159 IO (io), 160 IO (io), 161 IO (io), 162 IO (io), 163 IO (io), 164 IO (io), 166 IO (io), 167 IO (io)
part B pins: 141 IO (io), 144 IO (io), 145 IO (io), 146 IO (io), 147 IO (io), 148 IO (io), 149 IO (io), 150 IO (io), 151 IO (io)
part C pins: 109 IO (io), 110 IO (io), 111 IO (io), 112 IO (io), 113 IO (io), 114 IO (io), 115 IO (io), 117 IO (io), 118 IO (io)
part D pins: 92 IO (io), 93 IO (io), 95 IO (io), 96 IO (io), 97 IO (io), 98 IO (io), 99 IO (io), 100 IO (io), 101 IO (io), 102 IO (io)
part E pins: 168 IO (io), 169 IO (io), 170 IO (io), 171 IO (io), 172 IO (io), 173 IO (io), 175 IO (io), 177 IO (io), 178 IO (io)
part F pins: 130 IO (io), 131 IO (io), 132 IO (io), 133 IO (io), 135 IO (io), 136 IO (io), 137 IO (io), 138 IO (io), 139 IO (io), 140 IO (io)
part G pins: 119 IO (io), 120 IO (io), 121 IO (io), 122 IO (io), 123 IO (io), 124 IO (io), 126 IO (io), 128 IO (io), 129 IO (io)
part H pins: 79 IO (io), 80 IO (io), 81 IO (io), 86 IO (io), 87 IO (io), 88 IO (io), 89 IO (io), 90 IO (io), 91 IO (io)
part I pins: 187 IO (io), 188 IO (io), 192 IO (io), 193 IO (io), 194 IO (io), 195 IO (io), 196 IO (io), 197 IO (io)
part J pins: 17 IO (io), 18 IO (io), 19 IO (io), 20 IO (io), 21 IO (io), 22 IO (io), 24 IO (io), 25 IO (io), 26 IO (io), 27 IO (io)
part K pins: 28 IO (io), 29 IO (io), 31 IO (io), 33 IO (io), 34 IO (io), 35 IO (io), 36 IO (io), 37 IO (io), 38 IO (io)
part L pins: 66 IO (io), 67 IO (io), 68 IO (io), 69 IO (io), 70 IO (io), 71 IO (io), 73 IO (io), 76 IO (io), 77 IO (io), 78 IO (io)
part M pins: 3 IO (io), 4 IO (io), 198 IO (io), 199 IO (io), 201 IO (io), 202 IO (io), 203 IO (io), 204 IO (io), 205 IO (io), 206 IO (io)
part N pins: 7 IO (io), 8 IO (io), 9 IO (io), 10 IO (io), 11 IO (io), 12 IO (io), 13 IO (io), 15 IO (io), 16 IO (io)
part O pins: 39 IO (io), 42 IO (io), 43 IO (io), 44 IO (io), 45 IO (io), 46 IO (io), 47 IO (io), 48 IO (io), 49 IO (io)
part P pins: 55 IO (io), 56 IO (io), 57 IO (io), 58 IO (io), 59 IO (io), 60 IO (io), 61 IO (io), 62 IO (io), 64 IO (io), 65 IO (io)
part Q pins: 181 INPUT/OE2/GCLK2 (in), 182 INPUT/GCLRn (in), 183 INPUT/OE1 (in), 184 INPUT/GCLK1 (in)
part R pins: 30 IO/TCK (io), 127 IO/TMS (io), 176 IO/TDI (io), 189 IO/TDO (io)
part S pins: 5 VCCIO(2.5V OR 3.3V) (power), 23 VCCIO(2.5V OR 3.3V) (power), 41 VCCIO(2.5V OR 3.3V) (power), 63 VCCIO(2.5V OR 3.3V) (power), 74 VCCINT(3.3V ONLY) (power), 83 VCCINT(3.3V ONLY) (power), 85 VCCIO(2.5V OR 3.3V) (power), 107 VCCIO(2.5V OR 3.3V) (power), 125 VCCIO(2.5V OR 3.3V) (power), 143 VCCIO(2.5V OR 3.3V) (power), 165 VCCIO(2.5V OR 3.3V) (power), 179 VCCINT(3.3V ONLY) (power), 186 VCCINT(3.3V ONLY) (power), 191 VCCIO(2.5V OR 3.3V) (power)
part T pins: 6 GNDIO (power), 14 GNDIO (power), 32 GNDIO (power), 40 GNDIO (power), 50 GNDIO (power), 72 GNDIO (power), 75 GNDINT (power), 82 GNDINT (power), 84 GNDIO (power), 94 GNDIO (power), 108 GNDIO (power), 116 GNDIO (power), 134 GNDIO (power), 142 GNDIO (power), 152 GNDIO (power), 174 GNDIO (power), 180 GNDINT (power), 185 GNDINT (power), 190 GNDIO (power), 200 GNDIO (power)
part U pins: 1 NC, 2 NC, 51 NC, 52 NC, 53 NC, 54 NC, 103 NC, 104 NC, 105 NC, 106 NC, 155 NC, 156 NC, 157 NC, 158 NC, 207 NC, 208 NC
part A text: BANK A
part B text: BANK B
part C text: BANK C
part D text: BANK D
part E text: BANK E
part F text: BANK F
part G text: BANK G
part H text: BANK H
part I text: BANK I
part J text: BANK J
part K text: BANK K
part L text: BANK L
part M text: BANK M
part N text: BANK N
part O text: BANK O
part P text: BANK P

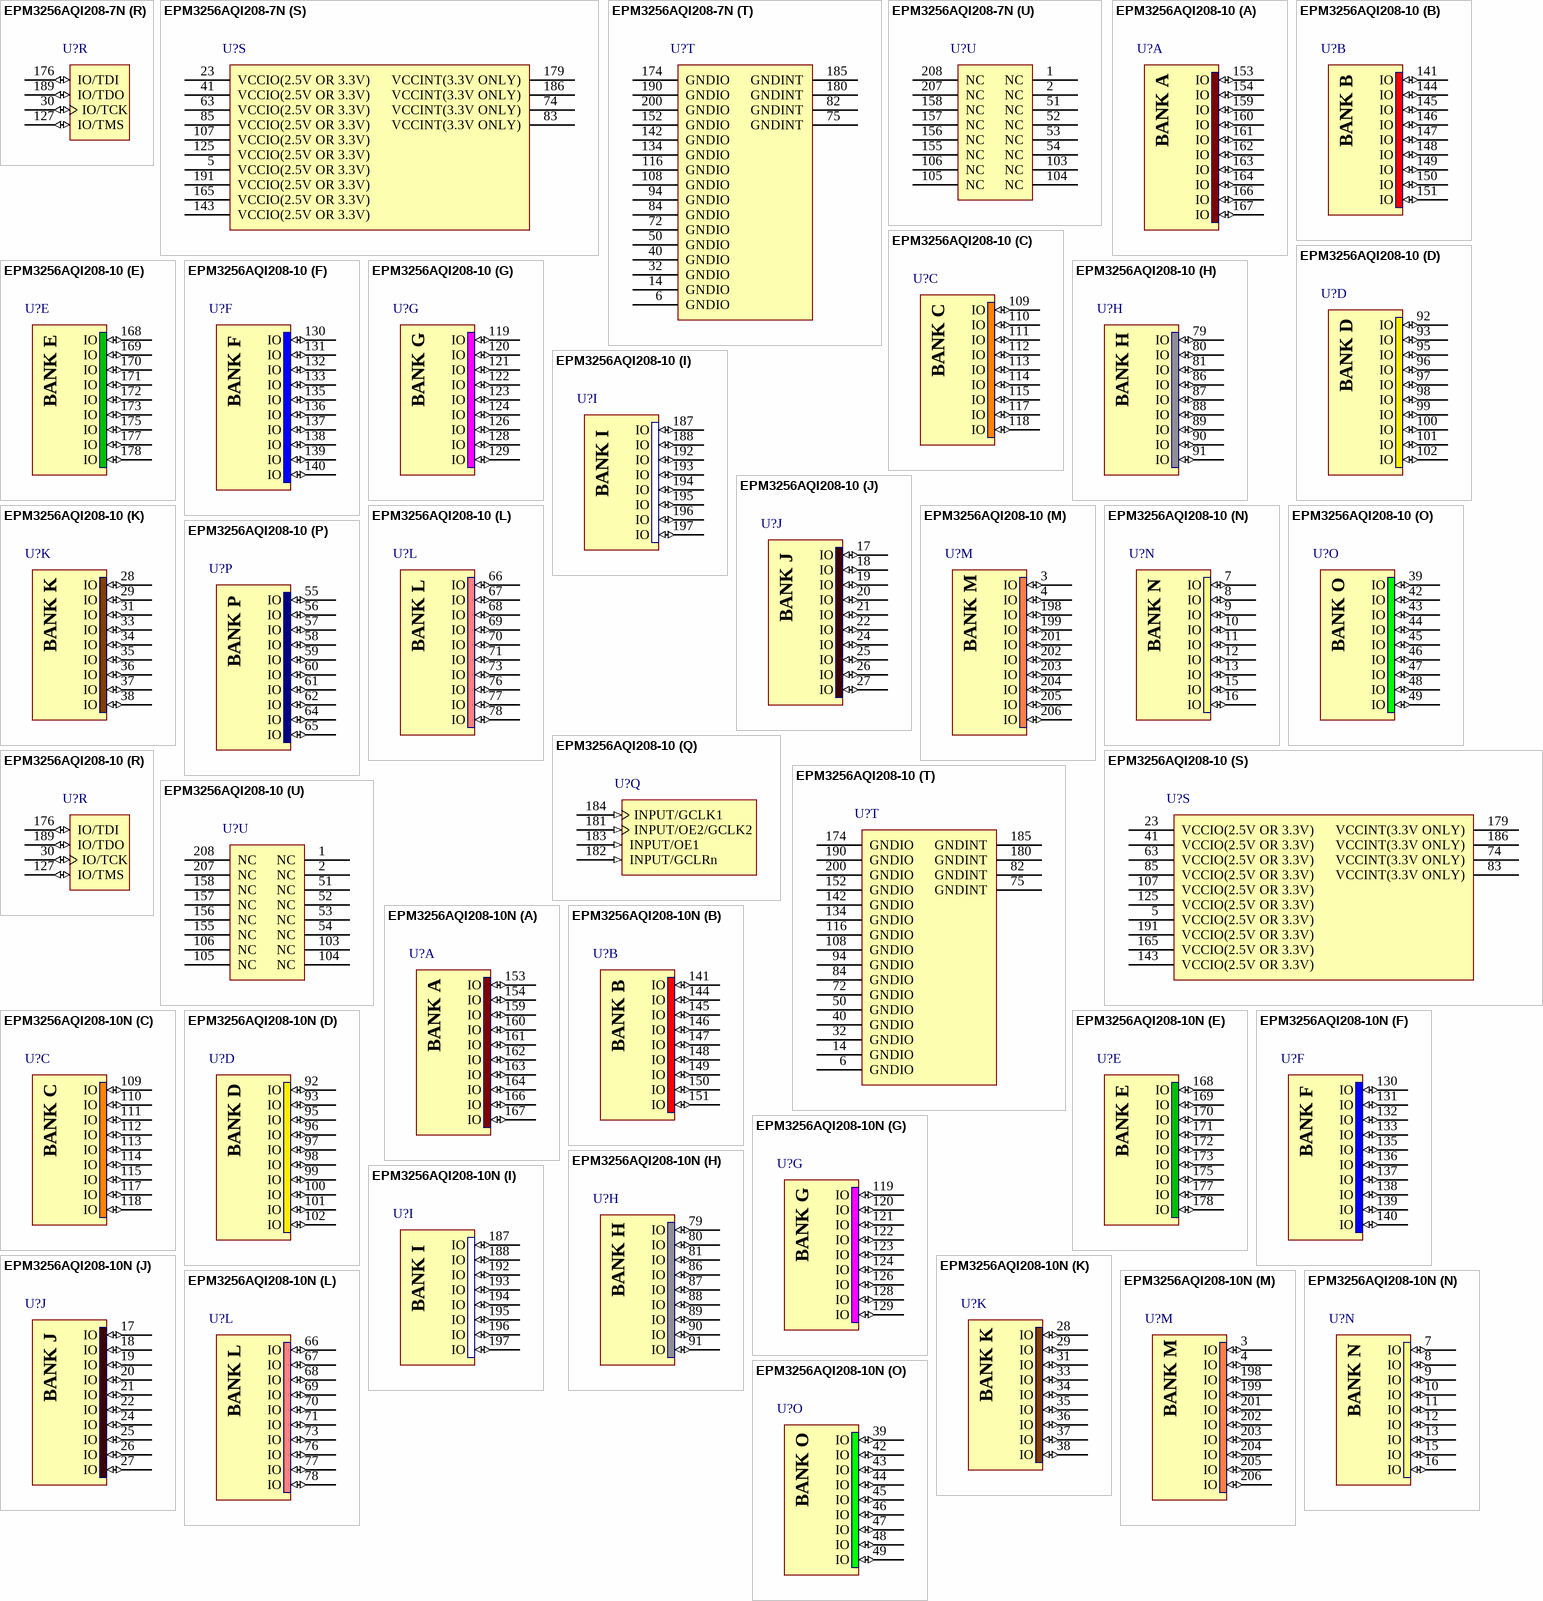
[diagram p33: symbols EPM3256AQI208-7N to EPM3256AQI208-10N]

## EPM3256AQI208-7N
designator U?
MAX 3256A 3.3V CPLD, 158 IOs, 208-Pin PQFP, Industrial Temperature, Speed Grade 7, Pb-Free; Published: 18-Aug-2005; LatestRevisionDate: 13-Apr-2006; LatestRevisionNote: IPC-7351 Footprint Added.; DatasheetVersion: ver3.5, Jun-2006; PackageVersion: ver14.3, Jul-2006; PackageReference: PQFP208; Publisher: Altium Limited; PackageDescription: 208-Pin Plastic Quad Flat Pack (PQFP208); Code_JEDEC: MS-029-FA-1; ComponentLink1Description: Manufacturer Link; ComponentLink1URL: http://www.altera.com/products/devices/max3k/m3k-index.html; ComponentLink2Description: Datasheet; ComponentLink2URL: http://www.altera.com/literature/ds/m3000a.pdf; ComponentLink3Description: Packaging Specification; ComponentLink3URL: http://www.altera.com/literature/ds/dspkg.pdf
footprint PQFP208_N (Shrink QFP, 208-Leads, Body 28x28mm, Pitch 0.5mm, IPC Medium Density)
footprint PQFP208_L (Shrink QFP, 208-Leads, Body 28x28mm, Pitch 0.5mm, IPC High Density)
footprint PQFP208_M (Shrink QFP, 208-Leads, Body 28x28mm, Pitch 0.5mm, IPC Low Density)
3D model EPM3256A-PQFP208 (208-Pin Plastic Quad Flat Pack (PQFP208))
signal-integrity model max3ka (MAX 3000A)
part A pins: 153 IO (io), 154 IO (io), 159 IO (io), 160 IO (io), 161 IO (io), 162 IO (io), 163 IO (io), 164 IO (io), 166 IO (io), 167 IO (io)
part B pins: 141 IO (io), 144 IO (io), 145 IO (io), 146 IO (io), 147 IO (io), 148 IO (io), 149 IO (io), 150 IO (io), 151 IO (io)
part C pins: 109 IO (io), 110 IO (io), 111 IO (io), 112 IO (io), 113 IO (io), 114 IO (io), 115 IO (io), 117 IO (io), 118 IO (io)
part D pins: 92 IO (io), 93 IO (io), 95 IO (io), 96 IO (io), 97 IO (io), 98 IO (io), 99 IO (io), 100 IO (io), 101 IO (io), 102 IO (io)
part E pins: 168 IO (io), 169 IO (io), 170 IO (io), 171 IO (io), 172 IO (io), 173 IO (io), 175 IO (io), 177 IO (io), 178 IO (io)
part F pins: 130 IO (io), 131 IO (io), 132 IO (io), 133 IO (io), 135 IO (io), 136 IO (io), 137 IO (io), 138 IO (io), 139 IO (io), 140 IO (io)
part G pins: 119 IO (io), 120 IO (io), 121 IO (io), 122 IO (io), 123 IO (io), 124 IO (io), 126 IO (io), 128 IO (io), 129 IO (io)
part H pins: 79 IO (io), 80 IO (io), 81 IO (io), 86 IO (io), 87 IO (io), 88 IO (io), 89 IO (io), 90 IO (io), 91 IO (io)
part I pins: 187 IO (io), 188 IO (io), 192 IO (io), 193 IO (io), 194 IO (io), 195 IO (io), 196 IO (io), 197 IO (io)
part J pins: 17 IO (io), 18 IO (io), 19 IO (io), 20 IO (io), 21 IO (io), 22 IO (io), 24 IO (io), 25 IO (io), 26 IO (io), 27 IO (io)
part K pins: 28 IO (io), 29 IO (io), 31 IO (io), 33 IO (io), 34 IO (io), 35 IO (io), 36 IO (io), 37 IO (io), 38 IO (io)
part L pins: 66 IO (io), 67 IO (io), 68 IO (io), 69 IO (io), 70 IO (io), 71 IO (io), 73 IO (io), 76 IO (io), 77 IO (io), 78 IO (io)
part M pins: 3 IO (io), 4 IO (io), 198 IO (io), 199 IO (io), 201 IO (io), 202 IO (io), 203 IO (io), 204 IO (io), 205 IO (io), 206 IO (io)
part N pins: 7 IO (io), 8 IO (io), 9 IO (io), 10 IO (io), 11 IO (io), 12 IO (io), 13 IO (io), 15 IO (io), 16 IO (io)
part O pins: 39 IO (io), 42 IO (io), 43 IO (io), 44 IO (io), 45 IO (io), 46 IO (io), 47 IO (io), 48 IO (io), 49 IO (io)
part P pins: 55 IO (io), 56 IO (io), 57 IO (io), 58 IO (io), 59 IO (io), 60 IO (io), 61 IO (io), 62 IO (io), 64 IO (io), 65 IO (io)
part Q pins: 181 INPUT/OE2/GCLK2 (in), 182 INPUT/GCLRn (in), 183 INPUT/OE1 (in), 184 INPUT/GCLK1 (in)
part R pins: 30 IO/TCK (io), 127 IO/TMS (io), 176 IO/TDI (io), 189 IO/TDO (io)
part S pins: 5 VCCIO(2.5V OR 3.3V) (power), 23 VCCIO(2.5V OR 3.3V) (power), 41 VCCIO(2.5V OR 3.3V) (power), 63 VCCIO(2.5V OR 3.3V) (power), 74 VCCINT(3.3V ONLY) (power), 83 VCCINT(3.3V ONLY) (power), 85 VCCIO(2.5V OR 3.3V) (power), 107 VCCIO(2.5V OR 3.3V) (power), 125 VCCIO(2.5V OR 3.3V) (power), 143 VCCIO(2.5V OR 3.3V) (power), 165 VCCIO(2.5V OR 3.3V) (power), 179 VCCINT(3.3V ONLY) (power), 186 VCCINT(3.3V ONLY) (power), 191 VCCIO(2.5V OR 3.3V) (power)
part T pins: 6 GNDIO (power), 14 GNDIO (power), 32 GNDIO (power), 40 GNDIO (power), 50 GNDIO (power), 72 GNDIO (power), 75 GNDINT (power), 82 GNDINT (power), 84 GNDIO (power), 94 GNDIO (power), 108 GNDIO (power), 116 GNDIO (power), 134 GNDIO (power), 142 GNDIO (power), 152 GNDIO (power), 174 GNDIO (power), 180 GNDINT (power), 185 GNDINT (power), 190 GNDIO (power), 200 GNDIO (power)
part U pins: 1 NC, 2 NC, 51 NC, 52 NC, 53 NC, 54 NC, 103 NC, 104 NC, 105 NC, 106 NC, 155 NC, 156 NC, 157 NC, 158 NC, 207 NC, 208 NC
part A text: BANK A
part B text: BANK B
part C text: BANK C
part D text: BANK D
part E text: BANK E
part F text: BANK F
part G text: BANK G
part H text: BANK H
part I text: BANK I
part J text: BANK J
part K text: BANK K
part L text: BANK L
part M text: BANK M
part N text: BANK N
part O text: BANK O
part P text: BANK P

## EPM3256AQI208-10
designator U?
MAX 3256A 3.3V CPLD, 158 IOs, 208-Pin PQFP, Industrial Temperature, Speed Grade 10; Published: 17-Sep-2003; LatestRevisionDate: 13-Apr-2006; LatestRevisionNote: IPC-7351 Footprint Added.; DatasheetVersion: ver3.5, Jun-2006; PackageVersion: ver14.3, Jul-2006; PackageReference: PQFP208; Publisher: Altium Limited; PackageDescription: 208-Pin Plastic Quad Flat Pack (PQFP208); Code_JEDEC: MS-029-FA-1; ComponentLink1Description: Manufacturer Link; ComponentLink1URL: http://www.altera.com/products/devices/max3k/m3k-index.html; ComponentLink2Description: Datasheet; ComponentLink2URL: http://www.altera.com/literature/ds/m3000a.pdf; ComponentLink3Description: Packaging Specification; ComponentLink3URL: http://www.altera.com/literature/ds/dspkg.pdf
footprint PQFP208_N (Shrink QFP, 208-Leads, Body 28x28mm, Pitch 0.5mm, IPC Medium Density)
footprint PQFP208_L (Shrink QFP, 208-Leads, Body 28x28mm, Pitch 0.5mm, IPC High Density)
footprint PQFP208_M (Shrink QFP, 208-Leads, Body 28x28mm, Pitch 0.5mm, IPC Low Density)
3D model EPM3256A-PQFP208 (208-Pin Plastic Quad Flat Pack (PQFP208))
signal-integrity model max3ka (MAX 3000A)
part A pins: 153 IO (io), 154 IO (io), 159 IO (io), 160 IO (io), 161 IO (io), 162 IO (io), 163 IO (io), 164 IO (io), 166 IO (io), 167 IO (io)
part B pins: 141 IO (io), 144 IO (io), 145 IO (io), 146 IO (io), 147 IO (io), 148 IO (io), 149 IO (io), 150 IO (io), 151 IO (io)
part C pins: 109 IO (io), 110 IO (io), 111 IO (io), 112 IO (io), 113 IO (io), 114 IO (io), 115 IO (io), 117 IO (io), 118 IO (io)
part D pins: 92 IO (io), 93 IO (io), 95 IO (io), 96 IO (io), 97 IO (io), 98 IO (io), 99 IO (io), 100 IO (io), 101 IO (io), 102 IO (io)
part E pins: 168 IO (io), 169 IO (io), 170 IO (io), 171 IO (io), 172 IO (io), 173 IO (io), 175 IO (io), 177 IO (io), 178 IO (io)
part F pins: 130 IO (io), 131 IO (io), 132 IO (io), 133 IO (io), 135 IO (io), 136 IO (io), 137 IO (io), 138 IO (io), 139 IO (io), 140 IO (io)
part G pins: 119 IO (io), 120 IO (io), 121 IO (io), 122 IO (io), 123 IO (io), 124 IO (io), 126 IO (io), 128 IO (io), 129 IO (io)
part H pins: 79 IO (io), 80 IO (io), 81 IO (io), 86 IO (io), 87 IO (io), 88 IO (io), 89 IO (io), 90 IO (io), 91 IO (io)
part I pins: 187 IO (io), 188 IO (io), 192 IO (io), 193 IO (io), 194 IO (io), 195 IO (io), 196 IO (io), 197 IO (io)
part J pins: 17 IO (io), 18 IO (io), 19 IO (io), 20 IO (io), 21 IO (io), 22 IO (io), 24 IO (io), 25 IO (io), 26 IO (io), 27 IO (io)
part K pins: 28 IO (io), 29 IO (io), 31 IO (io), 33 IO (io), 34 IO (io), 35 IO (io), 36 IO (io), 37 IO (io), 38 IO (io)
part L pins: 66 IO (io), 67 IO (io), 68 IO (io), 69 IO (io), 70 IO (io), 71 IO (io), 73 IO (io), 76 IO (io), 77 IO (io), 78 IO (io)
part M pins: 3 IO (io), 4 IO (io), 198 IO (io), 199 IO (io), 201 IO (io), 202 IO (io), 203 IO (io), 204 IO (io), 205 IO (io), 206 IO (io)
part N pins: 7 IO (io), 8 IO (io), 9 IO (io), 10 IO (io), 11 IO (io), 12 IO (io), 13 IO (io), 15 IO (io), 16 IO (io)
part O pins: 39 IO (io), 42 IO (io), 43 IO (io), 44 IO (io), 45 IO (io), 46 IO (io), 47 IO (io), 48 IO (io), 49 IO (io)
part P pins: 55 IO (io), 56 IO (io), 57 IO (io), 58 IO (io), 59 IO (io), 60 IO (io), 61 IO (io), 62 IO (io), 64 IO (io), 65 IO (io)
part Q pins: 181 INPUT/OE2/GCLK2 (in), 182 INPUT/GCLRn (in), 183 INPUT/OE1 (in), 184 INPUT/GCLK1 (in)
part R pins: 30 IO/TCK (io), 127 IO/TMS (io), 176 IO/TDI (io), 189 IO/TDO (io)
part S pins: 5 VCCIO(2.5V OR 3.3V) (power), 23 VCCIO(2.5V OR 3.3V) (power), 41 VCCIO(2.5V OR 3.3V) (power), 63 VCCIO(2.5V OR 3.3V) (power), 74 VCCINT(3.3V ONLY) (power), 83 VCCINT(3.3V ONLY) (power), 85 VCCIO(2.5V OR 3.3V) (power), 107 VCCIO(2.5V OR 3.3V) (power), 125 VCCIO(2.5V OR 3.3V) (power), 143 VCCIO(2.5V OR 3.3V) (power), 165 VCCIO(2.5V OR 3.3V) (power), 179 VCCINT(3.3V ONLY) (power), 186 VCCINT(3.3V ONLY) (power), 191 VCCIO(2.5V OR 3.3V) (power)
part T pins: 6 GNDIO (power), 14 GNDIO (power), 32 GNDIO (power), 40 GNDIO (power), 50 GNDIO (power), 72 GNDIO (power), 75 GNDINT (power), 82 GNDINT (power), 84 GNDIO (power), 94 GNDIO (power), 108 GNDIO (power), 116 GNDIO (power), 134 GNDIO (power), 142 GNDIO (power), 152 GNDIO (power), 174 GNDIO (power), 180 GNDINT (power), 185 GNDINT (power), 190 GNDIO (power), 200 GNDIO (power)
part U pins: 1 NC, 2 NC, 51 NC, 52 NC, 53 NC, 54 NC, 103 NC, 104 NC, 105 NC, 106 NC, 155 NC, 156 NC, 157 NC, 158 NC, 207 NC, 208 NC
part A text: BANK A
part B text: BANK B
part C text: BANK C
part D text: BANK D
part E text: BANK E
part F text: BANK F
part G text: BANK G
part H text: BANK H
part I text: BANK I
part J text: BANK J
part K text: BANK K
part L text: BANK L
part M text: BANK M
part N text: BANK N
part O text: BANK O
part P text: BANK P

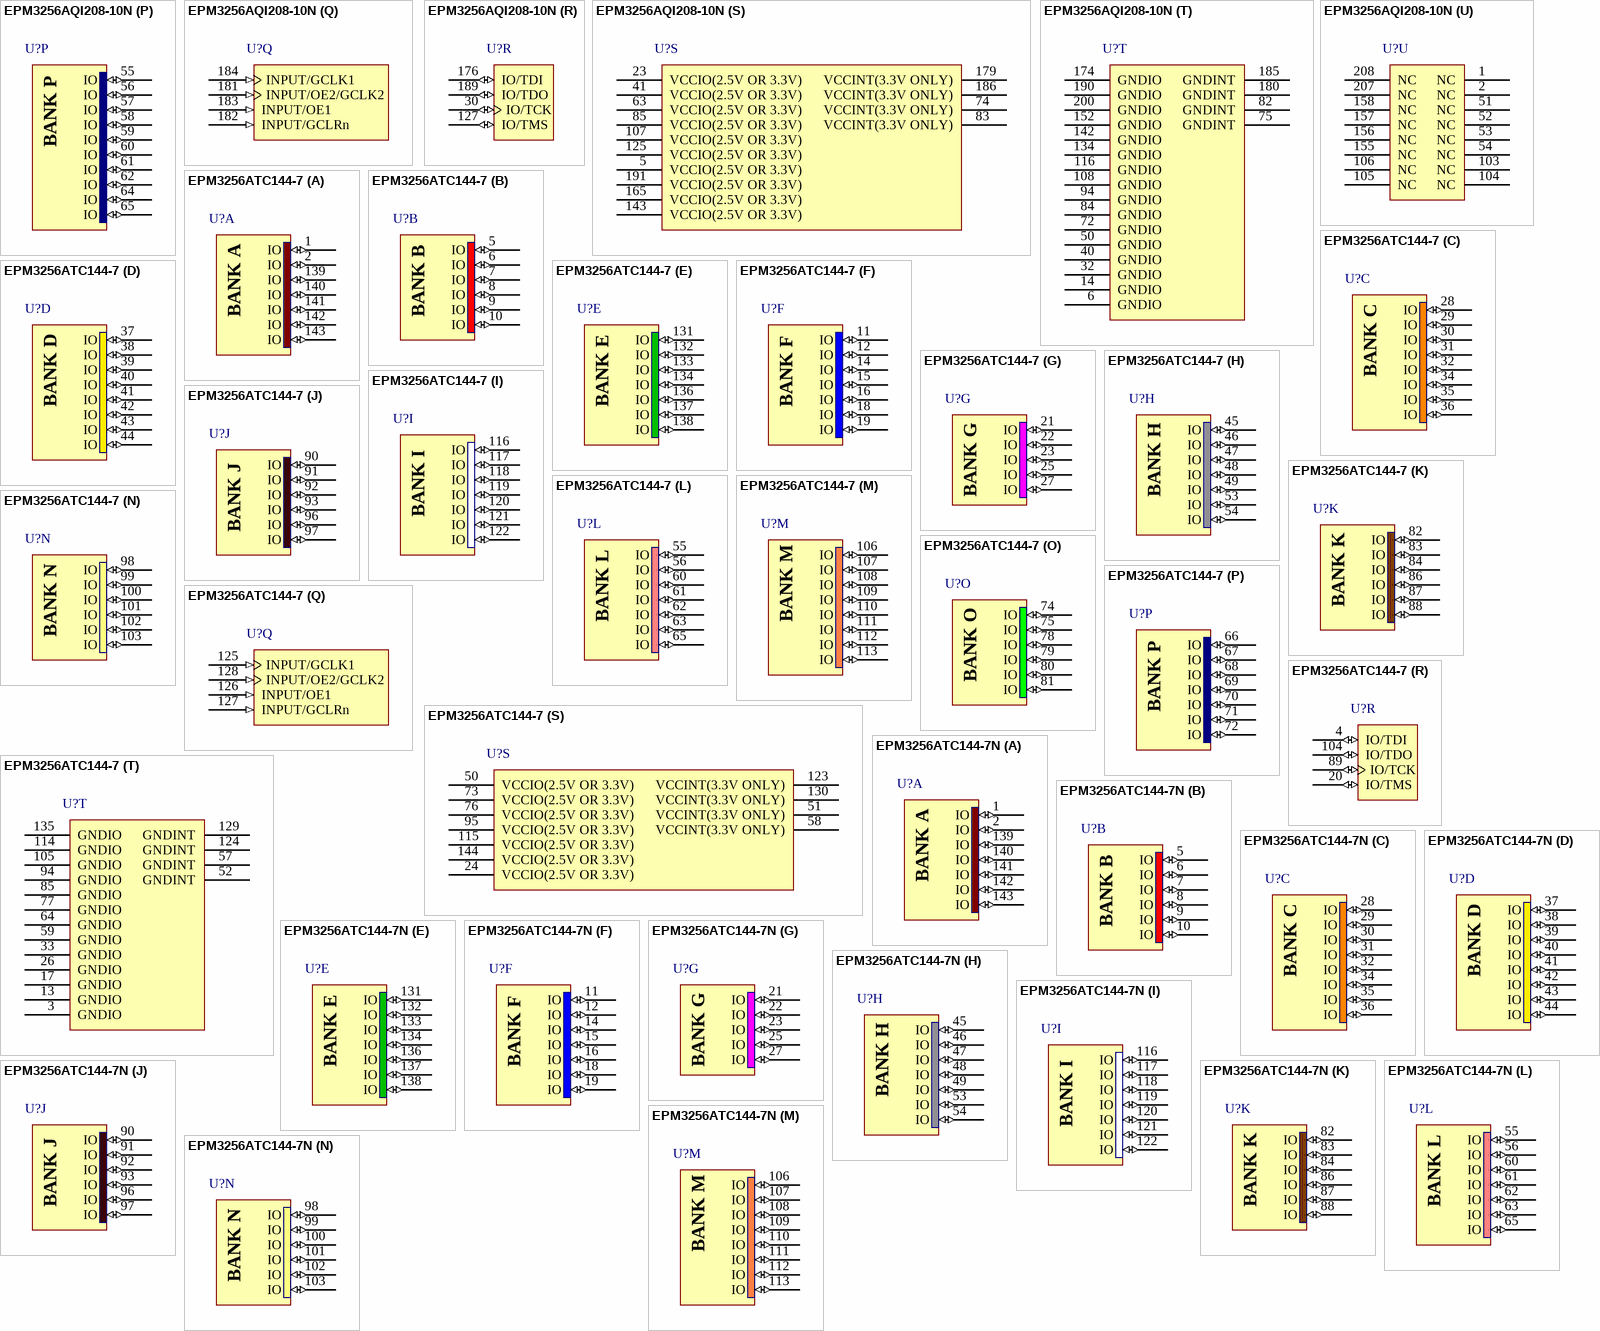
[diagram p34: symbols EPM3256AQI208-10N to EPM3256ATC144-7N]

## EPM3256AQI208-10N
designator U?
MAX 3256A 3.3V CPLD, 158 IOs, 208-Pin PQFP, Industrial Temperature, Speed Grade 10, Pb-Free; Published: 18-Aug-2005; LatestRevisionDate: 13-Apr-2006; LatestRevisionNote: IPC-7351 Footprint Added.; DatasheetVersion: ver3.5, Jun-2006; PackageVersion: ver14.3, Jul-2006; PackageReference: PQFP208; Publisher: Altium Limited; PackageDescription: 208-Pin Plastic Quad Flat Pack (PQFP208); Code_JEDEC: MS-029-FA-1; ComponentLink1Description: Manufacturer Link; ComponentLink1URL: http://www.altera.com/products/devices/max3k/m3k-index.html; ComponentLink2Description: Datasheet; ComponentLink2URL: http://www.altera.com/literature/ds/m3000a.pdf; ComponentLink3Description: Packaging Specification; ComponentLink3URL: http://www.altera.com/literature/ds/dspkg.pdf
footprint PQFP208_N (Shrink QFP, 208-Leads, Body 28x28mm, Pitch 0.5mm, IPC Medium Density)
footprint PQFP208_L (Shrink QFP, 208-Leads, Body 28x28mm, Pitch 0.5mm, IPC High Density)
footprint PQFP208_M (Shrink QFP, 208-Leads, Body 28x28mm, Pitch 0.5mm, IPC Low Density)
3D model EPM3256A-PQFP208 (208-Pin Plastic Quad Flat Pack (PQFP208))
signal-integrity model max3ka (MAX 3000A)
part A pins: 153 IO (io), 154 IO (io), 159 IO (io), 160 IO (io), 161 IO (io), 162 IO (io), 163 IO (io), 164 IO (io), 166 IO (io), 167 IO (io)
part B pins: 141 IO (io), 144 IO (io), 145 IO (io), 146 IO (io), 147 IO (io), 148 IO (io), 149 IO (io), 150 IO (io), 151 IO (io)
part C pins: 109 IO (io), 110 IO (io), 111 IO (io), 112 IO (io), 113 IO (io), 114 IO (io), 115 IO (io), 117 IO (io), 118 IO (io)
part D pins: 92 IO (io), 93 IO (io), 95 IO (io), 96 IO (io), 97 IO (io), 98 IO (io), 99 IO (io), 100 IO (io), 101 IO (io), 102 IO (io)
part E pins: 168 IO (io), 169 IO (io), 170 IO (io), 171 IO (io), 172 IO (io), 173 IO (io), 175 IO (io), 177 IO (io), 178 IO (io)
part F pins: 130 IO (io), 131 IO (io), 132 IO (io), 133 IO (io), 135 IO (io), 136 IO (io), 137 IO (io), 138 IO (io), 139 IO (io), 140 IO (io)
part G pins: 119 IO (io), 120 IO (io), 121 IO (io), 122 IO (io), 123 IO (io), 124 IO (io), 126 IO (io), 128 IO (io), 129 IO (io)
part H pins: 79 IO (io), 80 IO (io), 81 IO (io), 86 IO (io), 87 IO (io), 88 IO (io), 89 IO (io), 90 IO (io), 91 IO (io)
part I pins: 187 IO (io), 188 IO (io), 192 IO (io), 193 IO (io), 194 IO (io), 195 IO (io), 196 IO (io), 197 IO (io)
part J pins: 17 IO (io), 18 IO (io), 19 IO (io), 20 IO (io), 21 IO (io), 22 IO (io), 24 IO (io), 25 IO (io), 26 IO (io), 27 IO (io)
part K pins: 28 IO (io), 29 IO (io), 31 IO (io), 33 IO (io), 34 IO (io), 35 IO (io), 36 IO (io), 37 IO (io), 38 IO (io)
part L pins: 66 IO (io), 67 IO (io), 68 IO (io), 69 IO (io), 70 IO (io), 71 IO (io), 73 IO (io), 76 IO (io), 77 IO (io), 78 IO (io)
part M pins: 3 IO (io), 4 IO (io), 198 IO (io), 199 IO (io), 201 IO (io), 202 IO (io), 203 IO (io), 204 IO (io), 205 IO (io), 206 IO (io)
part N pins: 7 IO (io), 8 IO (io), 9 IO (io), 10 IO (io), 11 IO (io), 12 IO (io), 13 IO (io), 15 IO (io), 16 IO (io)
part O pins: 39 IO (io), 42 IO (io), 43 IO (io), 44 IO (io), 45 IO (io), 46 IO (io), 47 IO (io), 48 IO (io), 49 IO (io)
part P pins: 55 IO (io), 56 IO (io), 57 IO (io), 58 IO (io), 59 IO (io), 60 IO (io), 61 IO (io), 62 IO (io), 64 IO (io), 65 IO (io)
part Q pins: 181 INPUT/OE2/GCLK2 (in), 182 INPUT/GCLRn (in), 183 INPUT/OE1 (in), 184 INPUT/GCLK1 (in)
part R pins: 30 IO/TCK (io), 127 IO/TMS (io), 176 IO/TDI (io), 189 IO/TDO (io)
part S pins: 5 VCCIO(2.5V OR 3.3V) (power), 23 VCCIO(2.5V OR 3.3V) (power), 41 VCCIO(2.5V OR 3.3V) (power), 63 VCCIO(2.5V OR 3.3V) (power), 74 VCCINT(3.3V ONLY) (power), 83 VCCINT(3.3V ONLY) (power), 85 VCCIO(2.5V OR 3.3V) (power), 107 VCCIO(2.5V OR 3.3V) (power), 125 VCCIO(2.5V OR 3.3V) (power), 143 VCCIO(2.5V OR 3.3V) (power), 165 VCCIO(2.5V OR 3.3V) (power), 179 VCCINT(3.3V ONLY) (power), 186 VCCINT(3.3V ONLY) (power), 191 VCCIO(2.5V OR 3.3V) (power)
part T pins: 6 GNDIO (power), 14 GNDIO (power), 32 GNDIO (power), 40 GNDIO (power), 50 GNDIO (power), 72 GNDIO (power), 75 GNDINT (power), 82 GNDINT (power), 84 GNDIO (power), 94 GNDIO (power), 108 GNDIO (power), 116 GNDIO (power), 134 GNDIO (power), 142 GNDIO (power), 152 GNDIO (power), 174 GNDIO (power), 180 GNDINT (power), 185 GNDINT (power), 190 GNDIO (power), 200 GNDIO (power)
part U pins: 1 NC, 2 NC, 51 NC, 52 NC, 53 NC, 54 NC, 103 NC, 104 NC, 105 NC, 106 NC, 155 NC, 156 NC, 157 NC, 158 NC, 207 NC, 208 NC
part A text: BANK A
part B text: BANK B
part C text: BANK C
part D text: BANK D
part E text: BANK E
part F text: BANK F
part G text: BANK G
part H text: BANK H
part I text: BANK I
part J text: BANK J
part K text: BANK K
part L text: BANK L
part M text: BANK M
part N text: BANK N
part O text: BANK O
part P text: BANK P

## EPM3256ATC144-7
designator U?
MAX 3256A 3.3V CPLD, 116 IOs, 144-Pin Plastic TQFP, Commercial Temperature, Speed Grade 7; Published: 23-Sep-2002; LatestRevisionDate: 13-Apr-2006; LatestRevisionNote: IPC-7351 Footprint Added.; DatasheetVersion: ver3.5, Jun-2006; PackageVersion: ver14.3, Jul-2006; PackageReference: TQFP144; Publisher: Altium Limited; PackageDescription: 144-Pin Plastic Thin Quad Flat Pack (TQFP144); Code_JEDEC: MS-026-BFB; ComponentLink1Description: Manufacturer Link; ComponentLink1URL: http://www.altera.com/products/devices/max3k/m3k-index.html; ComponentLink2Description: Datasheet; ComponentLink2URL: http://www.altera.com/literature/ds/m3000a.pdf; ComponentLink3Description: Packaging Specification; ComponentLink3URL: http://www.altera.com/literature/ds/dspkg.pdf
footprint TQFP144_N (Thin QFP, 144-Leads, Body 20x20mm, Pitch 0.5mm, IPC Medium Density)
footprint TQFP144_L (Thin QFP, 144-Leads, Body 20x20mm, Pitch 0.5mm, IPC High Density)
footprint TQFP144_M (Thin QFP, 144-Leads, Body 20x20mm, Pitch 0.5mm, IPC Low Density)
3D model EPM3256A-TQFP144 (144-Pin Plastic Thin Quad Flat Pack (TQFP144))
signal-integrity model max3ka (MAX 3000A)
part A pins: 1 IO (io), 2 IO (io), 139 IO (io), 140 IO (io), 141 IO (io), 142 IO (io), 143 IO (io)
part B pins: 5 IO (io), 6 IO (io), 7 IO (io), 8 IO (io), 9 IO (io), 10 IO (io)
part C pins: 28 IO (io), 29 IO (io), 30 IO (io), 31 IO (io), 32 IO (io), 34 IO (io), 35 IO (io), 36 IO (io)
part D pins: 37 IO (io), 38 IO (io), 39 IO (io), 40 IO (io), 41 IO (io), 42 IO (io), 43 IO (io), 44 IO (io)
part E pins: 131 IO (io), 132 IO (io), 133 IO (io), 134 IO (io), 136 IO (io), 137 IO (io), 138 IO (io)
part F pins: 11 IO (io), 12 IO (io), 14 IO (io), 15 IO (io), 16 IO (io), 18 IO (io), 19 IO (io)
part G pins: 21 IO (io), 22 IO (io), 23 IO (io), 25 IO (io), 27 IO (io)
part H pins: 45 IO (io), 46 IO (io), 47 IO (io), 48 IO (io), 49 IO (io), 53 IO (io), 54 IO (io)
part I pins: 116 IO (io), 117 IO (io), 118 IO (io), 119 IO (io), 120 IO (io), 121 IO (io), 122 IO (io)
part J pins: 90 IO (io), 91 IO (io), 92 IO (io), 93 IO (io), 96 IO (io), 97 IO (io)
part K pins: 82 IO (io), 83 IO (io), 84 IO (io), 86 IO (io), 87 IO (io), 88 IO (io)
part L pins: 55 IO (io), 56 IO (io), 60 IO (io), 61 IO (io), 62 IO (io), 63 IO (io), 65 IO (io)
part M pins: 106 IO (io), 107 IO (io), 108 IO (io), 109 IO (io), 110 IO (io), 111 IO (io), 112 IO (io), 113 IO (io)
part N pins: 98 IO (io), 99 IO (io), 100 IO (io), 101 IO (io), 102 IO (io), 103 IO (io)
part O pins: 74 IO (io), 75 IO (io), 78 IO (io), 79 IO (io), 80 IO (io), 81 IO (io)
part P pins: 66 IO (io), 67 IO (io), 68 IO (io), 69 IO (io), 70 IO (io), 71 IO (io), 72 IO (io)
part Q pins: 125 INPUT/GCLK1 (in), 126 INPUT/OE1 (in), 127 INPUT/GCLRn (in), 128 INPUT/OE2/GCLK2 (in)
part R pins: 4 IO/TDI (io), 20 IO/TMS (io), 89 IO/TCK (io), 104 IO/TDO (io)
part S pins: 24 VCCIO(2.5V OR 3.3V) (power), 50 VCCIO(2.5V OR 3.3V) (power), 51 VCCINT(3.3V ONLY) (power), 58 VCCINT(3.3V ONLY) (power), 73 VCCIO(2.5V OR 3.3V) (power), 76 VCCIO(2.5V OR 3.3V) (power), 95 VCCIO(2.5V OR 3.3V) (power), 115 VCCIO(2.5V OR 3.3V) (power), 123 VCCINT(3.3V ONLY) (power), 130 VCCINT(3.3V ONLY) (power), 144 VCCIO(2.5V OR 3.3V) (power)
part T pins: 3 GNDIO (power), 13 GNDIO (power), 17 GNDIO (power), 26 GNDIO (power), 33 GNDIO (power), 52 GNDINT (power), 57 GNDINT (power), 59 GNDIO (power), 64 GNDIO (power), 77 GNDIO (power), 85 GNDIO (power), 94 GNDIO (power), 105 GNDIO (power), 114 GNDIO (power), 124 GNDINT (power), 129 GNDINT (power), 135 GNDIO (power)
part A text: BANK A
part B text: BANK B
part C text: BANK C
part D text: BANK D
part E text: BANK E
part F text: BANK F
part G text: BANK G
part H text: BANK H
part I text: BANK I
part J text: BANK J
part K text: BANK K
part L text: BANK L
part M text: BANK M
part N text: BANK N
part O text: BANK O
part P text: BANK P

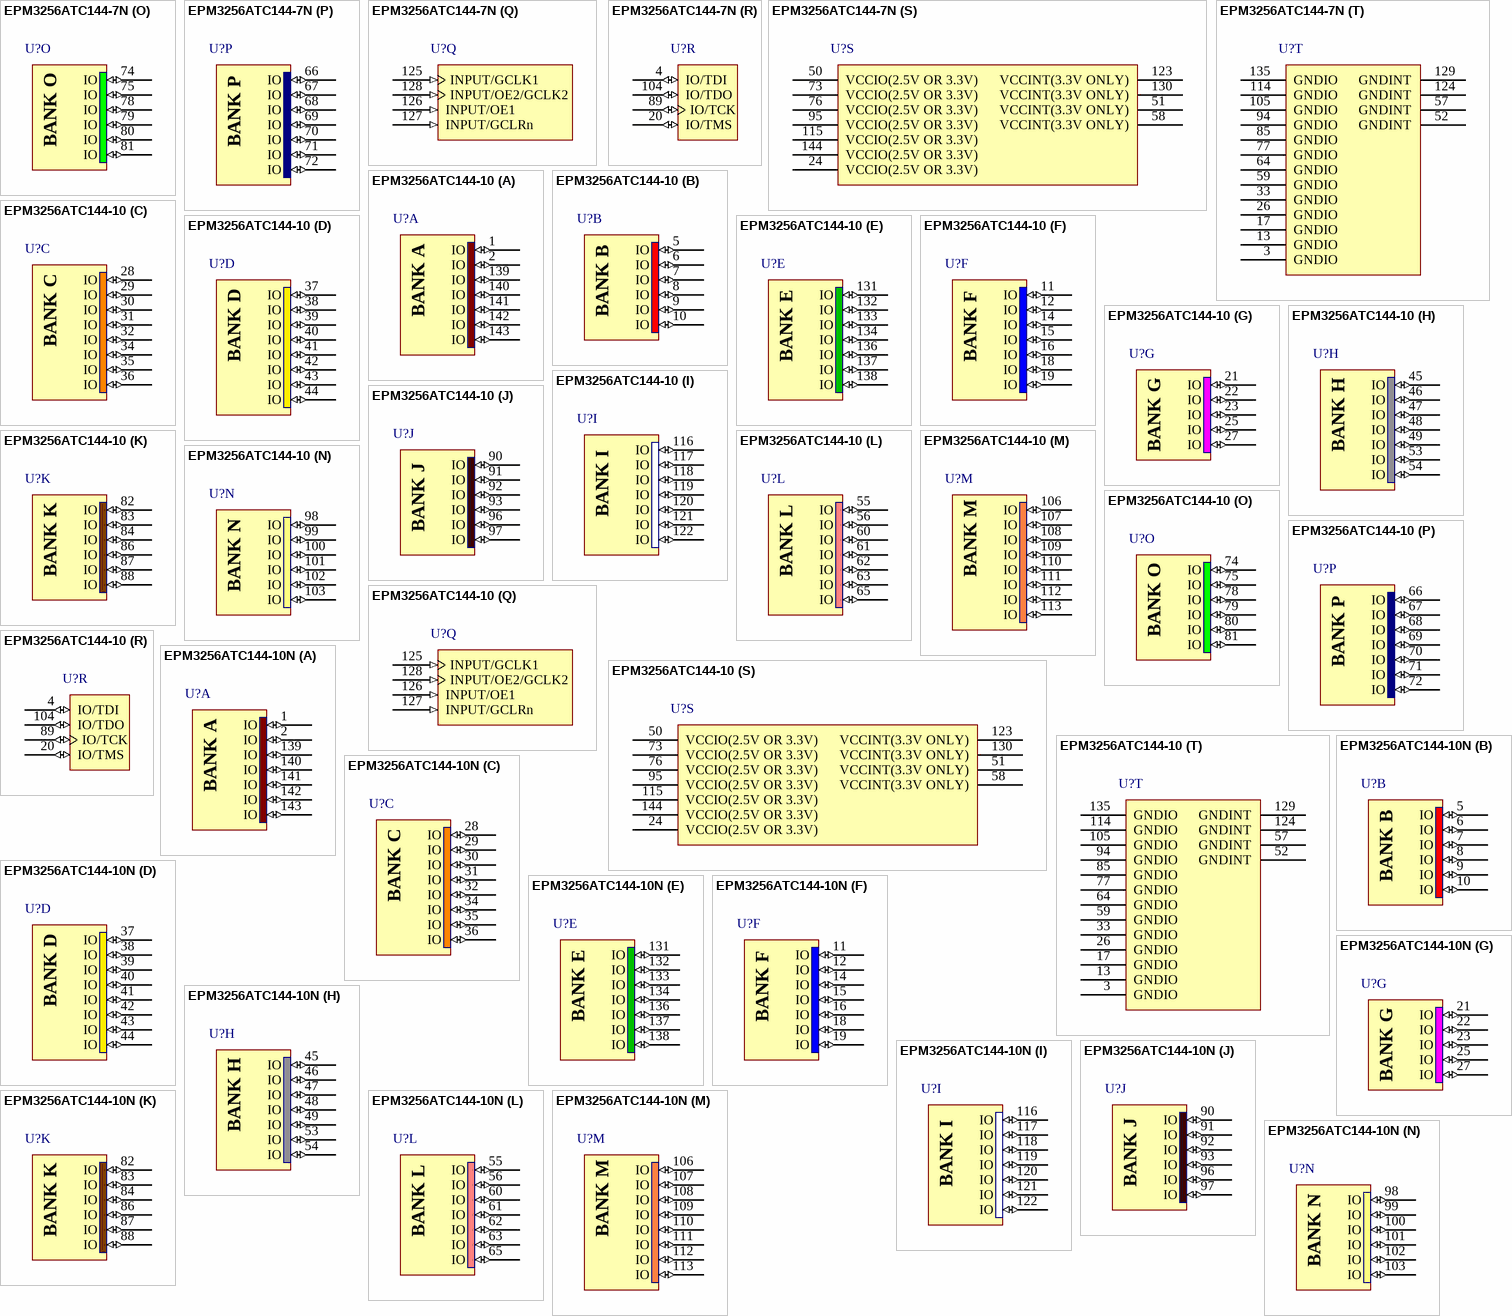
[diagram p35: symbols EPM3256ATC144-7N to EPM3256ATC144-10N]

## EPM3256ATC144-7N
designator U?
MAX 3256A 3.3V CPLD, 116 IOs, 144-Pin Plastic TQFP, Commercial Temperature, Speed Grade 7, Pb-Free; Published: 4-Mar-2005; LatestRevisionDate: 13-Apr-2006; LatestRevisionNote: IPC-7351 Footprint Added.; DatasheetVersion: ver3.5, Jun-2006; PackageVersion: ver14.3, Jul-2006; PackageReference: TQFP144; Publisher: Altium Limited; PackageDescription: 144-Pin Plastic Thin Quad Flat Pack (TQFP144); Code_JEDEC: MS-026-BFB; ComponentLink1Description: Manufacturer Link; ComponentLink1URL: http://www.altera.com/products/devices/max3k/m3k-index.html; ComponentLink2Description: Datasheet; ComponentLink2URL: http://www.altera.com/literature/ds/m3000a.pdf; ComponentLink3Description: Packaging Specification; ComponentLink3URL: http://www.altera.com/literature/ds/dspkg.pdf
footprint TQFP144_N (Thin QFP, 144-Leads, Body 20x20mm, Pitch 0.5mm, IPC Medium Density)
footprint TQFP144_L (Thin QFP, 144-Leads, Body 20x20mm, Pitch 0.5mm, IPC High Density)
footprint TQFP144_M (Thin QFP, 144-Leads, Body 20x20mm, Pitch 0.5mm, IPC Low Density)
3D model EPM3256A-TQFP144 (144-Pin Plastic Thin Quad Flat Pack (TQFP144))
signal-integrity model max3ka (MAX 3000A)
part A pins: 1 IO (io), 2 IO (io), 139 IO (io), 140 IO (io), 141 IO (io), 142 IO (io), 143 IO (io)
part B pins: 5 IO (io), 6 IO (io), 7 IO (io), 8 IO (io), 9 IO (io), 10 IO (io)
part C pins: 28 IO (io), 29 IO (io), 30 IO (io), 31 IO (io), 32 IO (io), 34 IO (io), 35 IO (io), 36 IO (io)
part D pins: 37 IO (io), 38 IO (io), 39 IO (io), 40 IO (io), 41 IO (io), 42 IO (io), 43 IO (io), 44 IO (io)
part E pins: 131 IO (io), 132 IO (io), 133 IO (io), 134 IO (io), 136 IO (io), 137 IO (io), 138 IO (io)
part F pins: 11 IO (io), 12 IO (io), 14 IO (io), 15 IO (io), 16 IO (io), 18 IO (io), 19 IO (io)
part G pins: 21 IO (io), 22 IO (io), 23 IO (io), 25 IO (io), 27 IO (io)
part H pins: 45 IO (io), 46 IO (io), 47 IO (io), 48 IO (io), 49 IO (io), 53 IO (io), 54 IO (io)
part I pins: 116 IO (io), 117 IO (io), 118 IO (io), 119 IO (io), 120 IO (io), 121 IO (io), 122 IO (io)
part J pins: 90 IO (io), 91 IO (io), 92 IO (io), 93 IO (io), 96 IO (io), 97 IO (io)
part K pins: 82 IO (io), 83 IO (io), 84 IO (io), 86 IO (io), 87 IO (io), 88 IO (io)
part L pins: 55 IO (io), 56 IO (io), 60 IO (io), 61 IO (io), 62 IO (io), 63 IO (io), 65 IO (io)
part M pins: 106 IO (io), 107 IO (io), 108 IO (io), 109 IO (io), 110 IO (io), 111 IO (io), 112 IO (io), 113 IO (io)
part N pins: 98 IO (io), 99 IO (io), 100 IO (io), 101 IO (io), 102 IO (io), 103 IO (io)
part O pins: 74 IO (io), 75 IO (io), 78 IO (io), 79 IO (io), 80 IO (io), 81 IO (io)
part P pins: 66 IO (io), 67 IO (io), 68 IO (io), 69 IO (io), 70 IO (io), 71 IO (io), 72 IO (io)
part Q pins: 125 INPUT/GCLK1 (in), 126 INPUT/OE1 (in), 127 INPUT/GCLRn (in), 128 INPUT/OE2/GCLK2 (in)
part R pins: 4 IO/TDI (io), 20 IO/TMS (io), 89 IO/TCK (io), 104 IO/TDO (io)
part S pins: 24 VCCIO(2.5V OR 3.3V) (power), 50 VCCIO(2.5V OR 3.3V) (power), 51 VCCINT(3.3V ONLY) (power), 58 VCCINT(3.3V ONLY) (power), 73 VCCIO(2.5V OR 3.3V) (power), 76 VCCIO(2.5V OR 3.3V) (power), 95 VCCIO(2.5V OR 3.3V) (power), 115 VCCIO(2.5V OR 3.3V) (power), 123 VCCINT(3.3V ONLY) (power), 130 VCCINT(3.3V ONLY) (power), 144 VCCIO(2.5V OR 3.3V) (power)
part T pins: 3 GNDIO (power), 13 GNDIO (power), 17 GNDIO (power), 26 GNDIO (power), 33 GNDIO (power), 52 GNDINT (power), 57 GNDINT (power), 59 GNDIO (power), 64 GNDIO (power), 77 GNDIO (power), 85 GNDIO (power), 94 GNDIO (power), 105 GNDIO (power), 114 GNDIO (power), 124 GNDINT (power), 129 GNDINT (power), 135 GNDIO (power)
part A text: BANK A
part B text: BANK B
part C text: BANK C
part D text: BANK D
part E text: BANK E
part F text: BANK F
part G text: BANK G
part H text: BANK H
part I text: BANK I
part J text: BANK J
part K text: BANK K
part L text: BANK L
part M text: BANK M
part N text: BANK N
part O text: BANK O
part P text: BANK P